# Altium schematic symbol library con-vg.SCHLIB: 123 symbols (part 1 of 5)
Pins are listed as number, name and electrical type; pins without a type are passive.

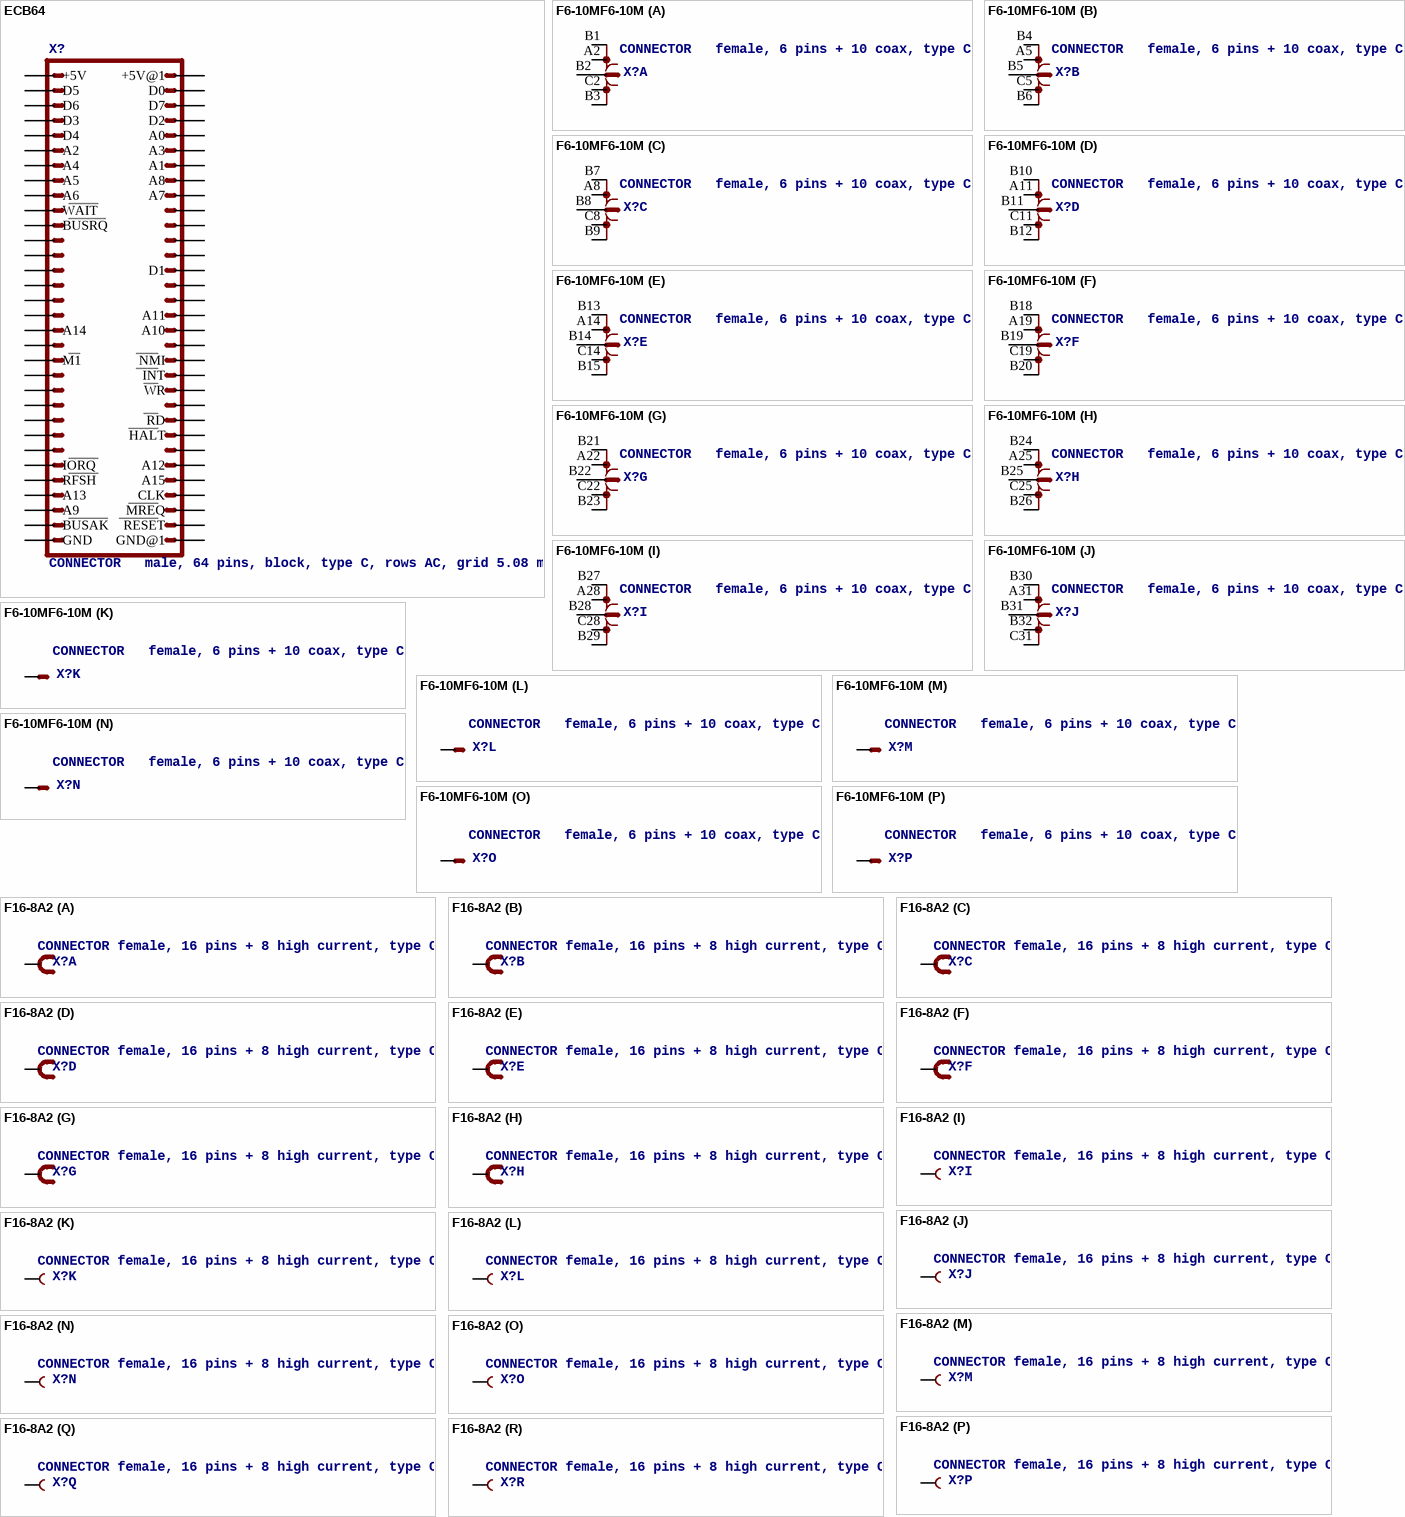
[diagram p0: symbols ECB64 to F16-8A2]

## ECB64
designator X?, comment CONNECTOR   male, 64 pins, block, type C, rows AC, grid 5.08 mm
footprint ML64ECB
pins: 10C @C10, 11C @C11, 12A @A12, 12C @C12, 13A @A13, 13C @C13, 14A @A14, 15A @A15, 15C @C15, 16A @A16, 16C @C16, 17A @A17, 19A @A19, 19C @C19, 21A @A21, 22A @A22, 23A @A23, 23C @C23, 24A @A24, 25A @A25, 26A @A26, 26C @C26, +5V (power), +5V@1 (power), A0, A1, A2, A3, A4, A5, A6, A7, A8, A9, A10, A11, A12, A13, A14, A15, BUSAK, BUSRQ, CLK, D0, D1, D2, D3, D4, D5, D6, D7, GND (power), GND@1 (power), HALT, INT, IORQ, M1, MREQ, NMI, RD, RESET, RFSH, WAIT, WR

## F6-10MF6-10M
designator X?, comment CONNECTOR   female, 6 pins + 10 coax, type C
footprint F6-10M
part A pins: A2 S2, B1 S1, B2 S, B3 S4, C2 S3
part B pins: A5 S2, B4 S1, B5 S, B6 S4, C5 S3
part C pins: A8 S2, B7 S1, B8 S, B9 S4, C8 S3
part D pins: A11 S2, B10 S1, B11 S, B12 S4, C11 S3
part E pins: A14 S2, B13 S1, B14 S, B15 S4, C14 S3
part F pins: A19 S2, B18 S1, B19 S, B20 S4, C19 S3
part G pins: A22 S2, B21 S1, B22 S, B23 S4, C22 S3
part H pins: A25 S2, B24 S1, B25 S, B26 S4, C25 S3
part I pins: A28 S2, B27 S1, B28 S, B29 S4, C28 S3
part J pins: A31 S2, B30 S1, B31 S, B32 S3, C31 S4
part K pins: A16 S
part L pins: B16 S
part M pins: C16 S
part N pins: A17 S
part O pins: B17 S
part P pins: C17 S

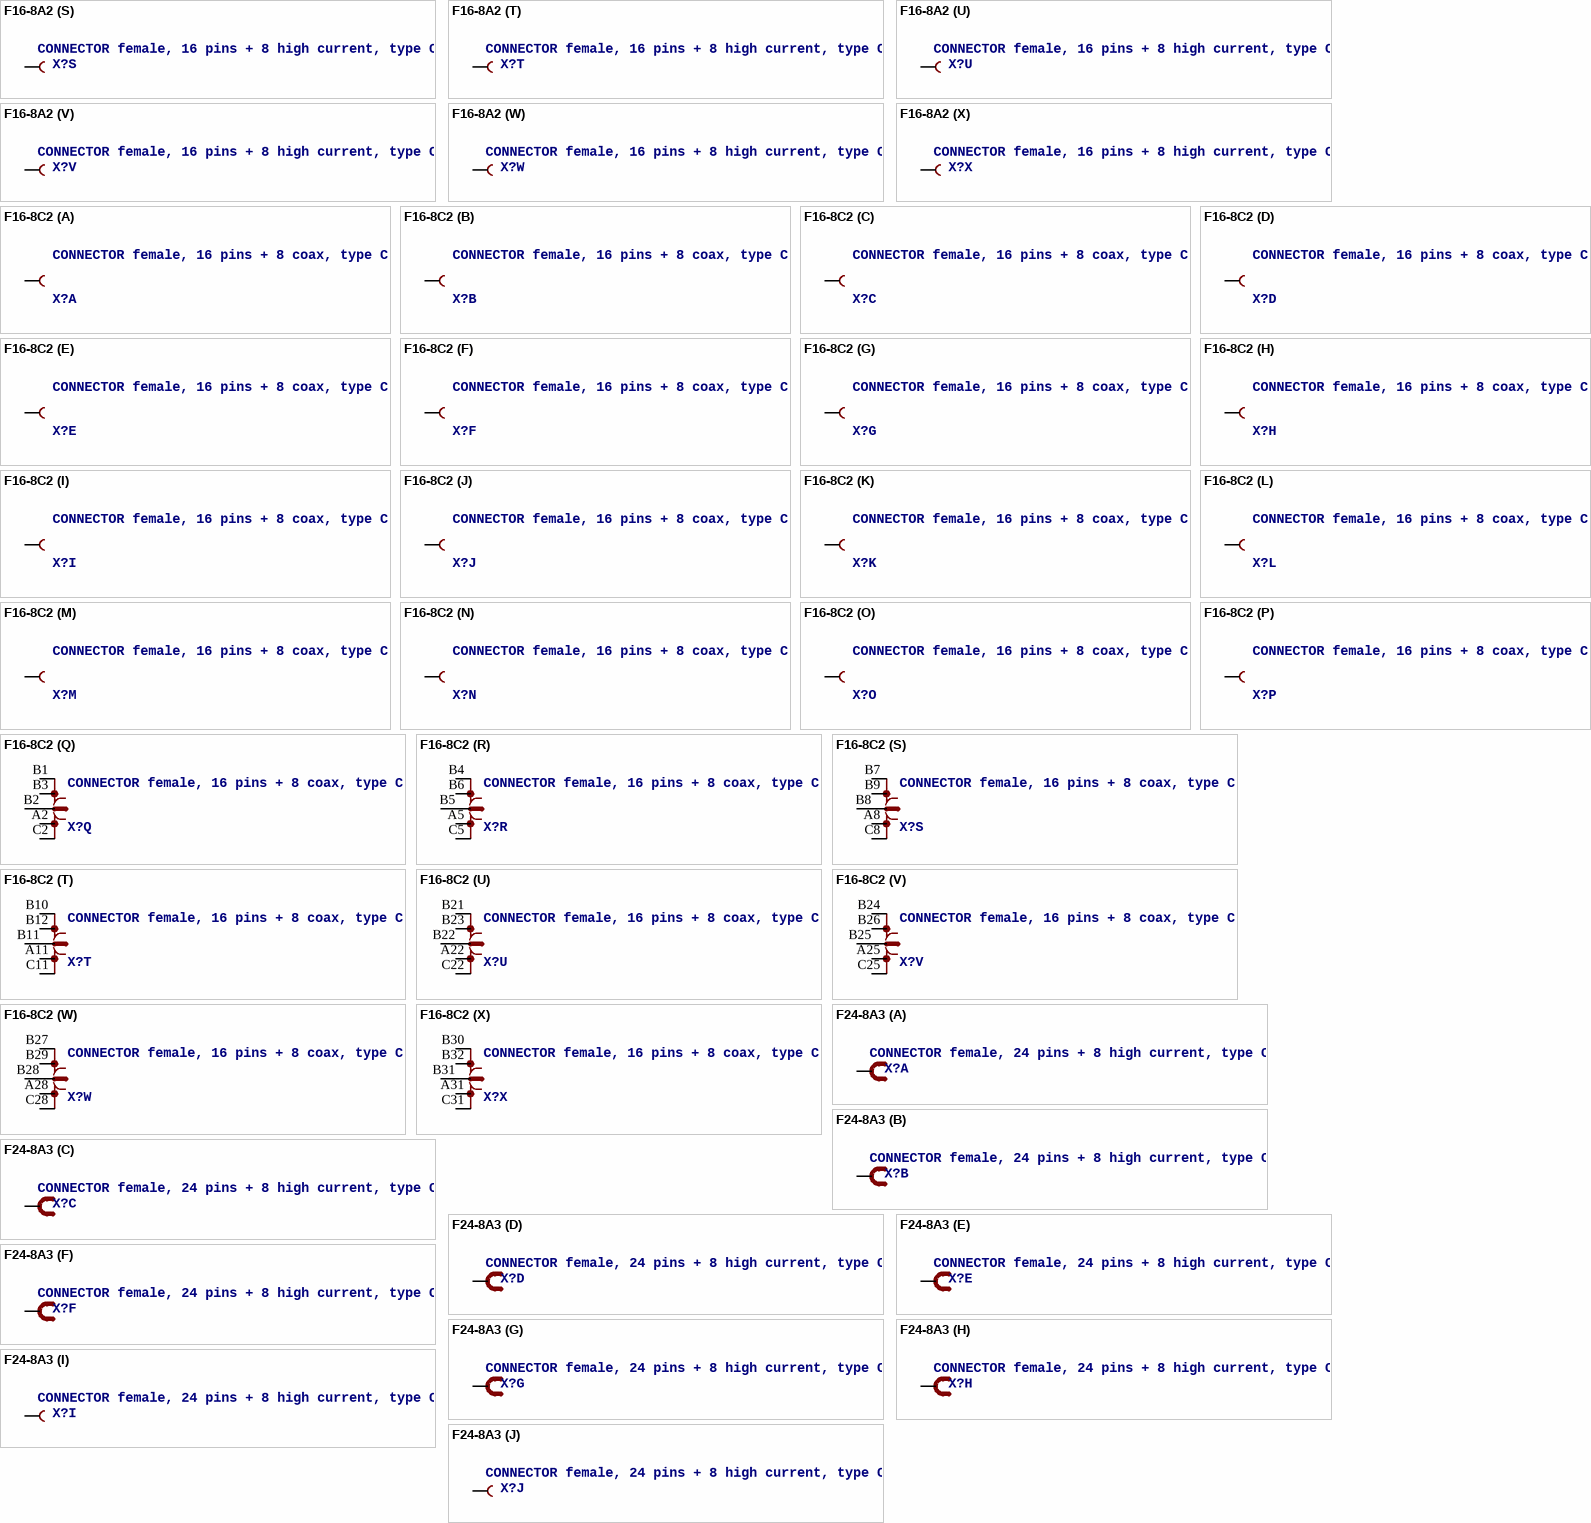
[diagram p1: symbols F16-8A2 to F24-8A3]

## F16-8A2
designator X?, comment CONNECTOR female, 16 pins + 8 high current, type C
footprint F16-8A2
part A pins: 1 B
part B pins: 2 B
part C pins: 3 B
part D pins: 4 B
part E pins: 5 B
part F pins: 6 B
part G pins: 7 B
part H pins: 8 B
part I pins: A13 B
part J pins: A14 B
part K pins: A15 B
part L pins: A16 B
part M pins: A17 B
part N pins: A18 B
part O pins: A19 B
part P pins: A20 B
part Q pins: C13 B
part R pins: C14 B
part S pins: C15 B
part T pins: C16 B
part U pins: C17 B
part V pins: C18 B
part W pins: C19 B
part X pins: C20 B

## F16-8C2
designator X?, comment CONNECTOR female, 16 pins + 8 coax, type C
footprint F16-8C2
part A pins: A13 B
part B pins: A14 B
part C pins: A15 B
part D pins: A16 B
part E pins: A17 B
part F pins: A18 B
part G pins: A19 B
part H pins: A20 B
part I pins: C13 B
part J pins: C14 B
part K pins: C15 B
part L pins: C16 B
part M pins: C17 B
part N pins: C18 B
part O pins: C19 B
part P pins: C20 B
part Q pins: A2 S3, B1 S1, B2 S, B3 S2, C2 S4
part R pins: A5 S3, B4 S1, B5 S, B6 S2, C5 S4
part S pins: A8 S3, B7 S1, B8 S, B9 S2, C8 S4
part T pins: A11 S3, B10 S1, B11 S, B12 S2, C11 S4
part U pins: A22 S3, B21 S1, B22 S, B23 S2, C22 S4
part V pins: A25 S3, B24 S1, B25 S, B26 S2, C25 S4
part W pins: A28 S3, B27 S1, B28 S, B29 S2, C28 S4
part X pins: A31 S3, B30 S1, B31 S, B32 S2, C31 S4

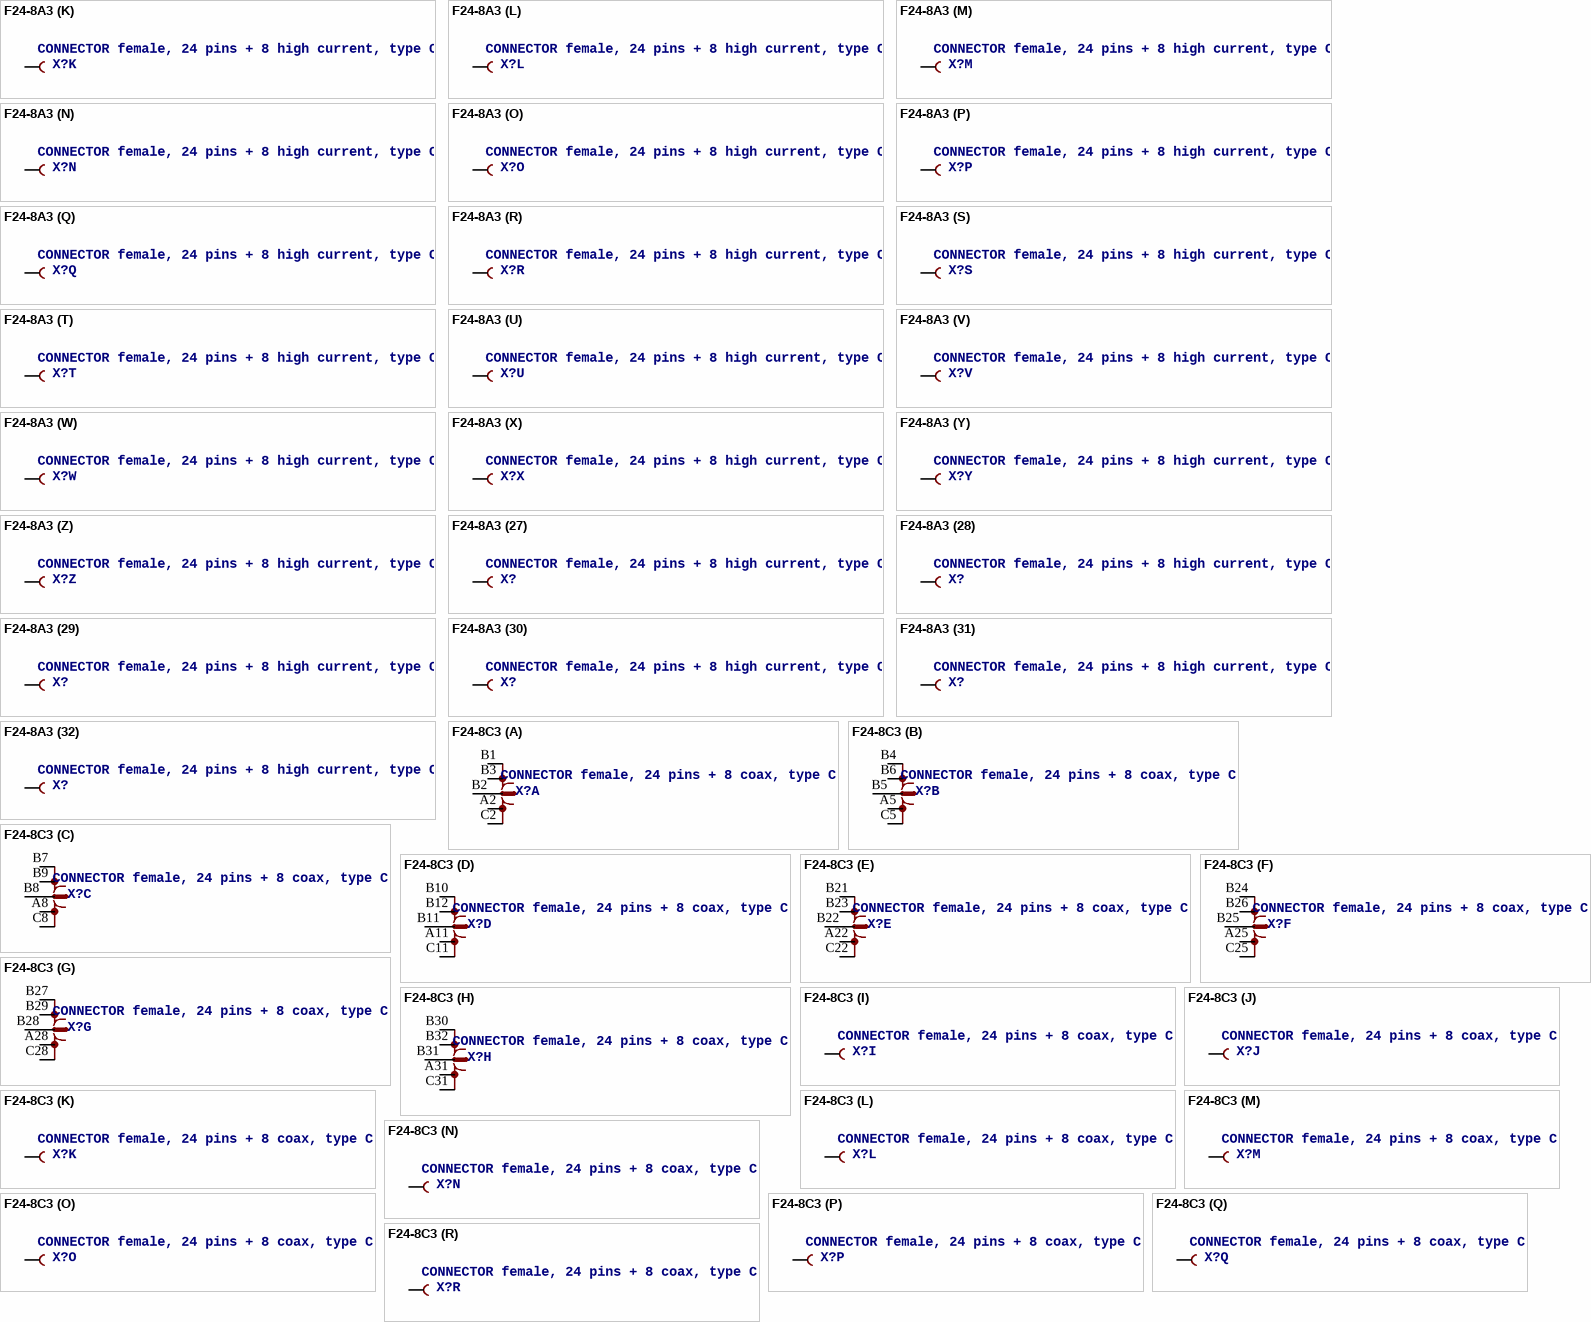
[diagram p2: symbols F24-8A3 to F24-8C3]

## F24-8A3
designator X?, comment CONNECTOR female, 24 pins + 8 high current, type C
footprint F24-8A3
part A pins: 1 B
part B pins: 2 B
part C pins: 3 B
part D pins: 4 B
part E pins: 5 B
part F pins: 6 B
part G pins: 7 B
part H pins: 8 B
part I pins: A13 B
part J pins: A14 B
part K pins: A15 B
part L pins: A16 B
part M pins: A17 B
part N pins: A18 B
part O pins: A19 B
part P pins: A20 B
part Q pins: C13 B
part R pins: C14 B
part S pins: C15 B
part T pins: C16 B
part U pins: C17 B
part V pins: C18 B
part W pins: C19 B
part X pins: C20 B
part Y pins: B13 B
part Z pins: B14 B
part 27 pins: B15 B
part 28 pins: B16 B
part 29 pins: B17 B
part 30 pins: B18 B
part 31 pins: B19 B
part 32 pins: B20 B

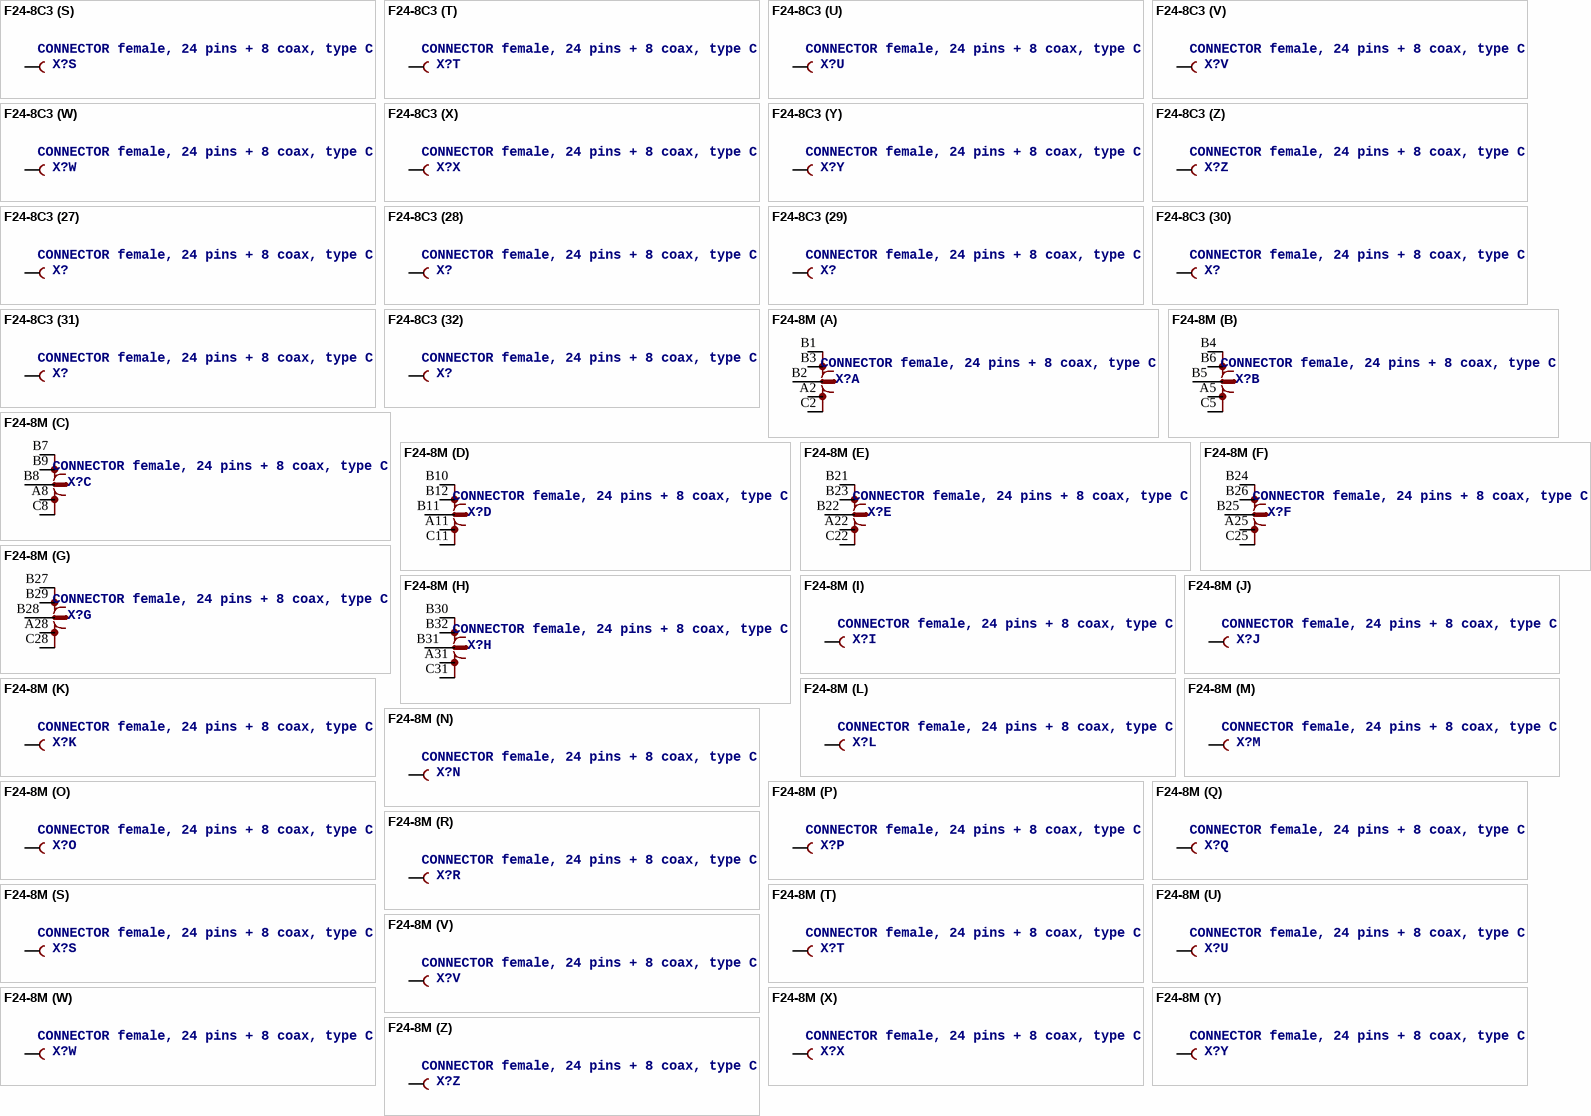
[diagram p3: symbols F24-8C3 to F24-8M]

## F24-8C3
designator X?, comment CONNECTOR female, 24 pins + 8 coax, type C
footprint F24-8C3
part A pins: A2 S3, B1 S1, B2 S, B3 S2, C2 S4
part B pins: A5 S3, B4 S1, B5 S, B6 S2, C5 S4
part C pins: A8 S3, B7 S1, B8 S, B9 S2, C8 S4
part D pins: A11 S3, B10 S1, B11 S, B12 S2, C11 S4
part E pins: A22 S3, B21 S1, B22 S, B23 S2, C22 S4
part F pins: A25 S3, B24 S1, B25 S, B26 S2, C25 S4
part G pins: A28 S3, B27 S1, B28 S, B29 S2, C28 S4
part H pins: A31 S3, B30 S1, B31 S, B32 S2, C31 S4
part I pins: A13 B
part J pins: A14 B
part K pins: A15 B
part L pins: A16 B
part M pins: A17 B
part N pins: A18 B
part O pins: A19 B
part P pins: A20 B
part Q pins: C13 B
part R pins: C14 B
part S pins: C15 B
part T pins: C16 B
part U pins: C17 B
part V pins: C18 B
part W pins: C19 B
part X pins: C20 B
part Y pins: B13 B
part Z pins: B14 B
part 27 pins: B15 B
part 28 pins: B16 B
part 29 pins: B17 B
part 30 pins: B18 B
part 31 pins: B19 B
part 32 pins: B20 B

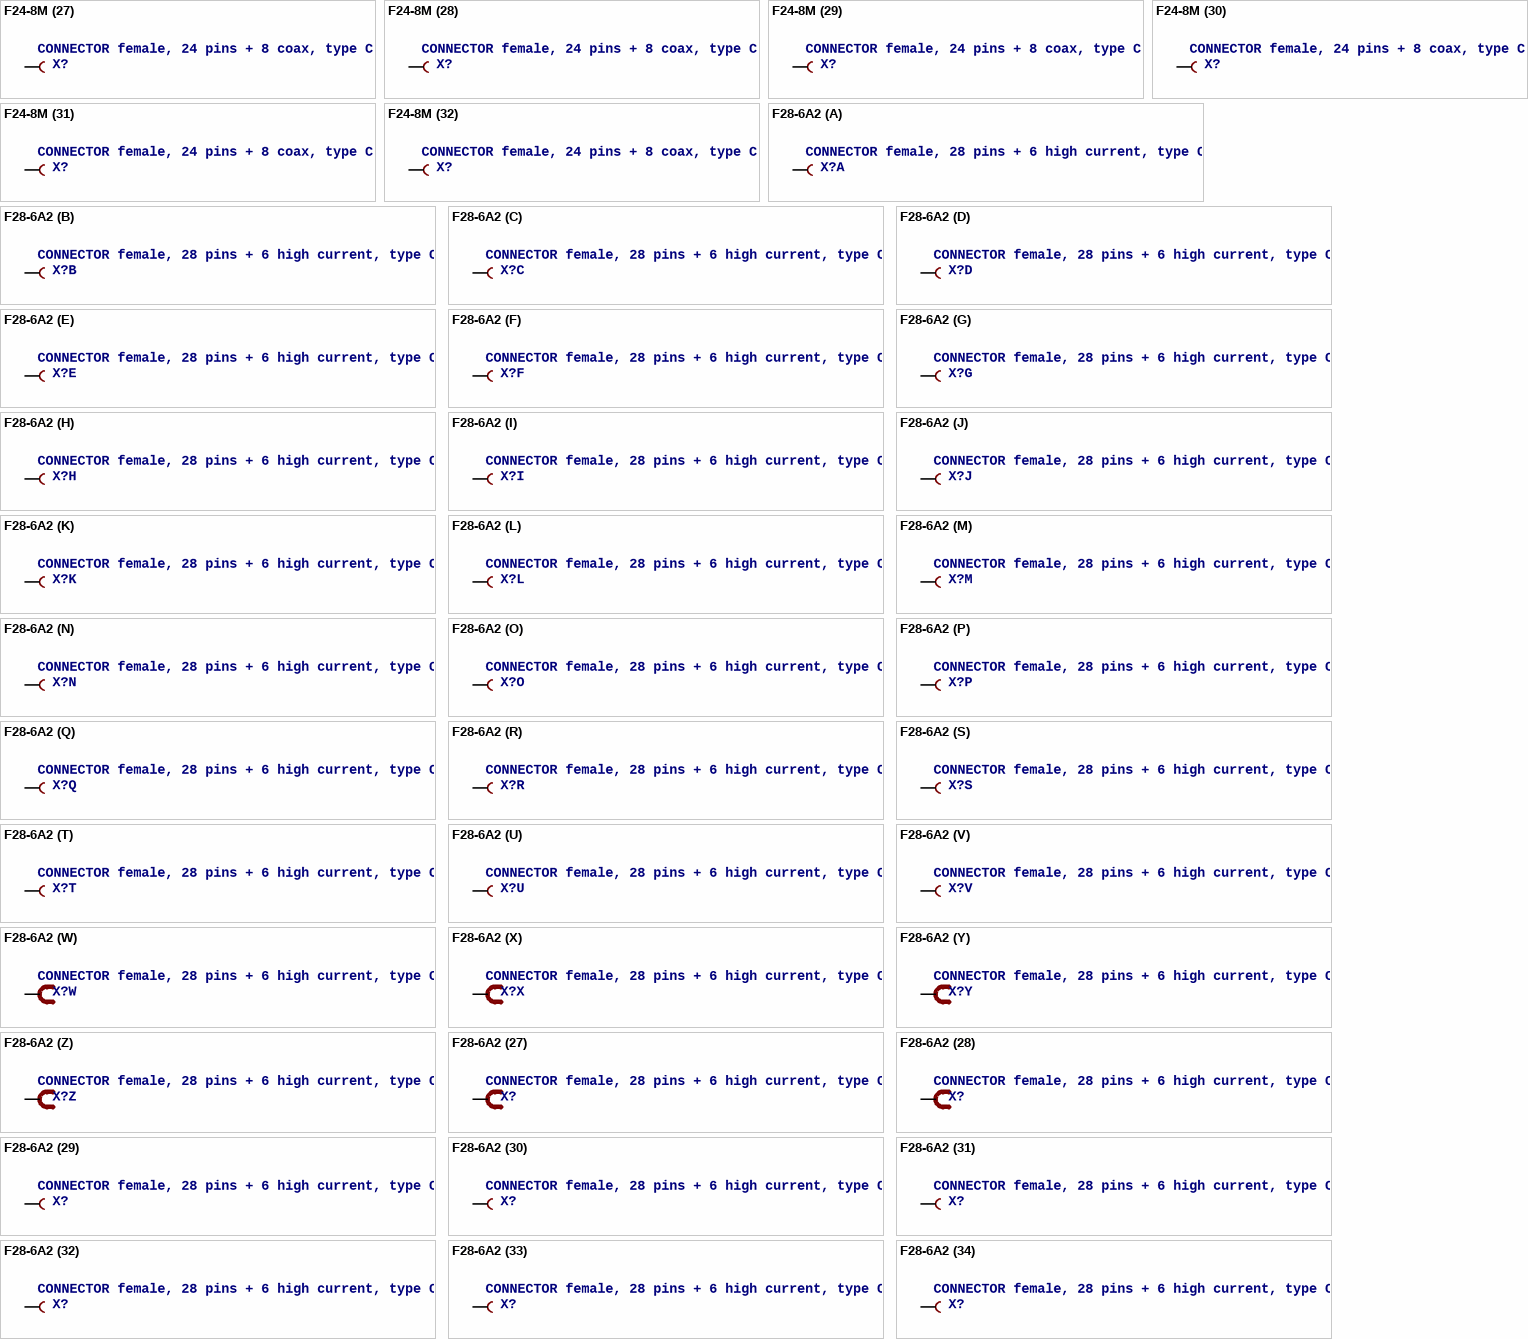
[diagram p4: symbols F24-8M to F28-6A2]

## F24-8M
designator X?, comment CONNECTOR female, 24 pins + 8 coax, type C
footprint F24-8M
part A pins: A2 S3, B1 S1, B2 S, B3 S2, C2 S4
part B pins: A5 S3, B4 S1, B5 S, B6 S2, C5 S4
part C pins: A8 S3, B7 S1, B8 S, B9 S2, C8 S4
part D pins: A11 S3, B10 S1, B11 S, B12 S2, C11 S4
part E pins: A22 S3, B21 S1, B22 S, B23 S2, C22 S4
part F pins: A25 S3, B24 S1, B25 S, B26 S2, C25 S4
part G pins: A28 S3, B27 S1, B28 S, B29 S2, C28 S4
part H pins: A31 S3, B30 S1, B31 S, B32 S2, C31 S4
part I pins: A13 B
part J pins: A14 B
part K pins: A15 B
part L pins: A16 B
part M pins: A17 B
part N pins: A18 B
part O pins: A19 B
part P pins: A20 B
part Q pins: C13 B
part R pins: C14 B
part S pins: C15 B
part T pins: C16 B
part U pins: C17 B
part V pins: C18 B
part W pins: C19 B
part X pins: C20 B
part Y pins: B13 B
part Z pins: B14 B
part 27 pins: B15 B
part 28 pins: B16 B
part 29 pins: B17 B
part 30 pins: B18 B
part 31 pins: B19 B
part 32 pins: B20 B

## F28-6A2
designator X?, comment CONNECTOR female, 28 pins + 6 high current, type C
footprint F28-6A2
part A pins: A10 B
part B pins: A14 B
part C pins: A15 B
part D pins: A16 B
part E pins: A17 B
part F pins: A18 B
part G pins: A19 B
part H pins: A20 B
part I pins: C10 B
part J pins: C14 B
part K pins: C15 B
part L pins: C16 B
part M pins: C17 B
part N pins: C18 B
part O pins: C19 B
part P pins: C20 B
part Q pins: A21 B
part R pins: A22 B
part S pins: A23 B
part T pins: C21 B
part U pins: C22 B
part V pins: C23 B
part W pins: 1 B
part X pins: 2 B
part Y pins: 3 B
part Z pins: 4 B
part 27 pins: 5 B
part 28 pins: 6 B
part 29 pins: A11 B
part 30 pins: A12 B
part 31 pins: A13 B
part 32 pins: C11 B
part 33 pins: C12 B
part 34 pins: C13 B

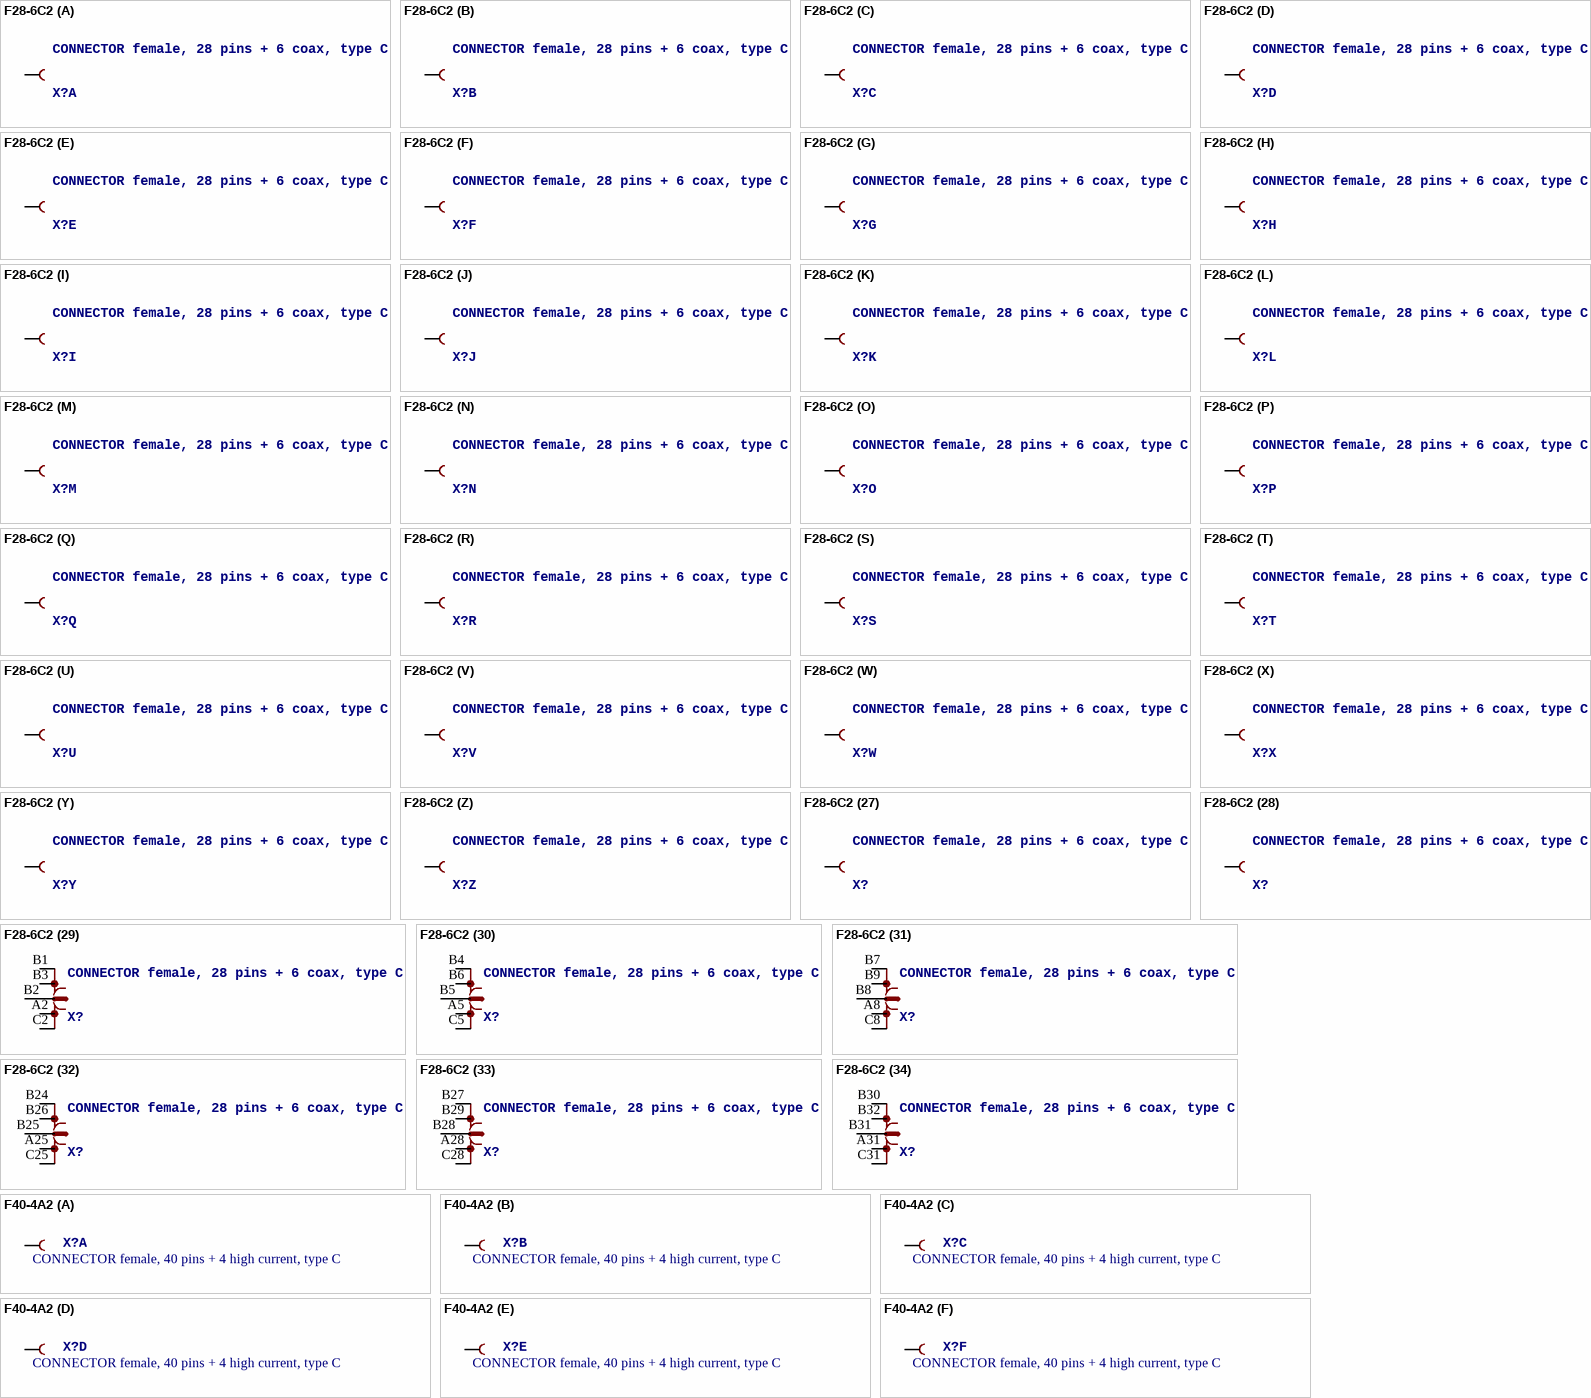
[diagram p5: symbols F28-6C2 to F40-4A2]

## F28-6C2
designator X?, comment CONNECTOR female, 28 pins + 6 coax, type C
footprint F28-6C2
part A pins: A10 B
part B pins: A14 B
part C pins: A15 B
part D pins: A16 B
part E pins: A17 B
part F pins: A18 B
part G pins: A19 B
part H pins: A20 B
part I pins: C10 B
part J pins: C14 B
part K pins: C15 B
part L pins: C16 B
part M pins: C17 B
part N pins: C18 B
part O pins: C19 B
part P pins: C20 B
part Q pins: A21 B
part R pins: A22 B
part S pins: A23 B
part T pins: C21 B
part U pins: C22 B
part V pins: C23 B
part W pins: A11 B
part X pins: A12 B
part Y pins: A13 B
part Z pins: C11 B
part 27 pins: C12 B
part 28 pins: C13 B
part 29 pins: A2 S3, B1 S1, B2 S, B3 S2, C2 S4
part 30 pins: A5 S3, B4 S1, B5 S, B6 S2, C5 S4
part 31 pins: A8 S3, B7 S1, B8 S, B9 S2, C8 S4
part 32 pins: A25 S3, B24 S1, B25 S, B26 S2, C25 S4
part 33 pins: A28 S3, B27 S1, B28 S, B29 S2, C28 S4
part 34 pins: A31 S3, B30 S1, B31 S, B32 S2, C31 S4

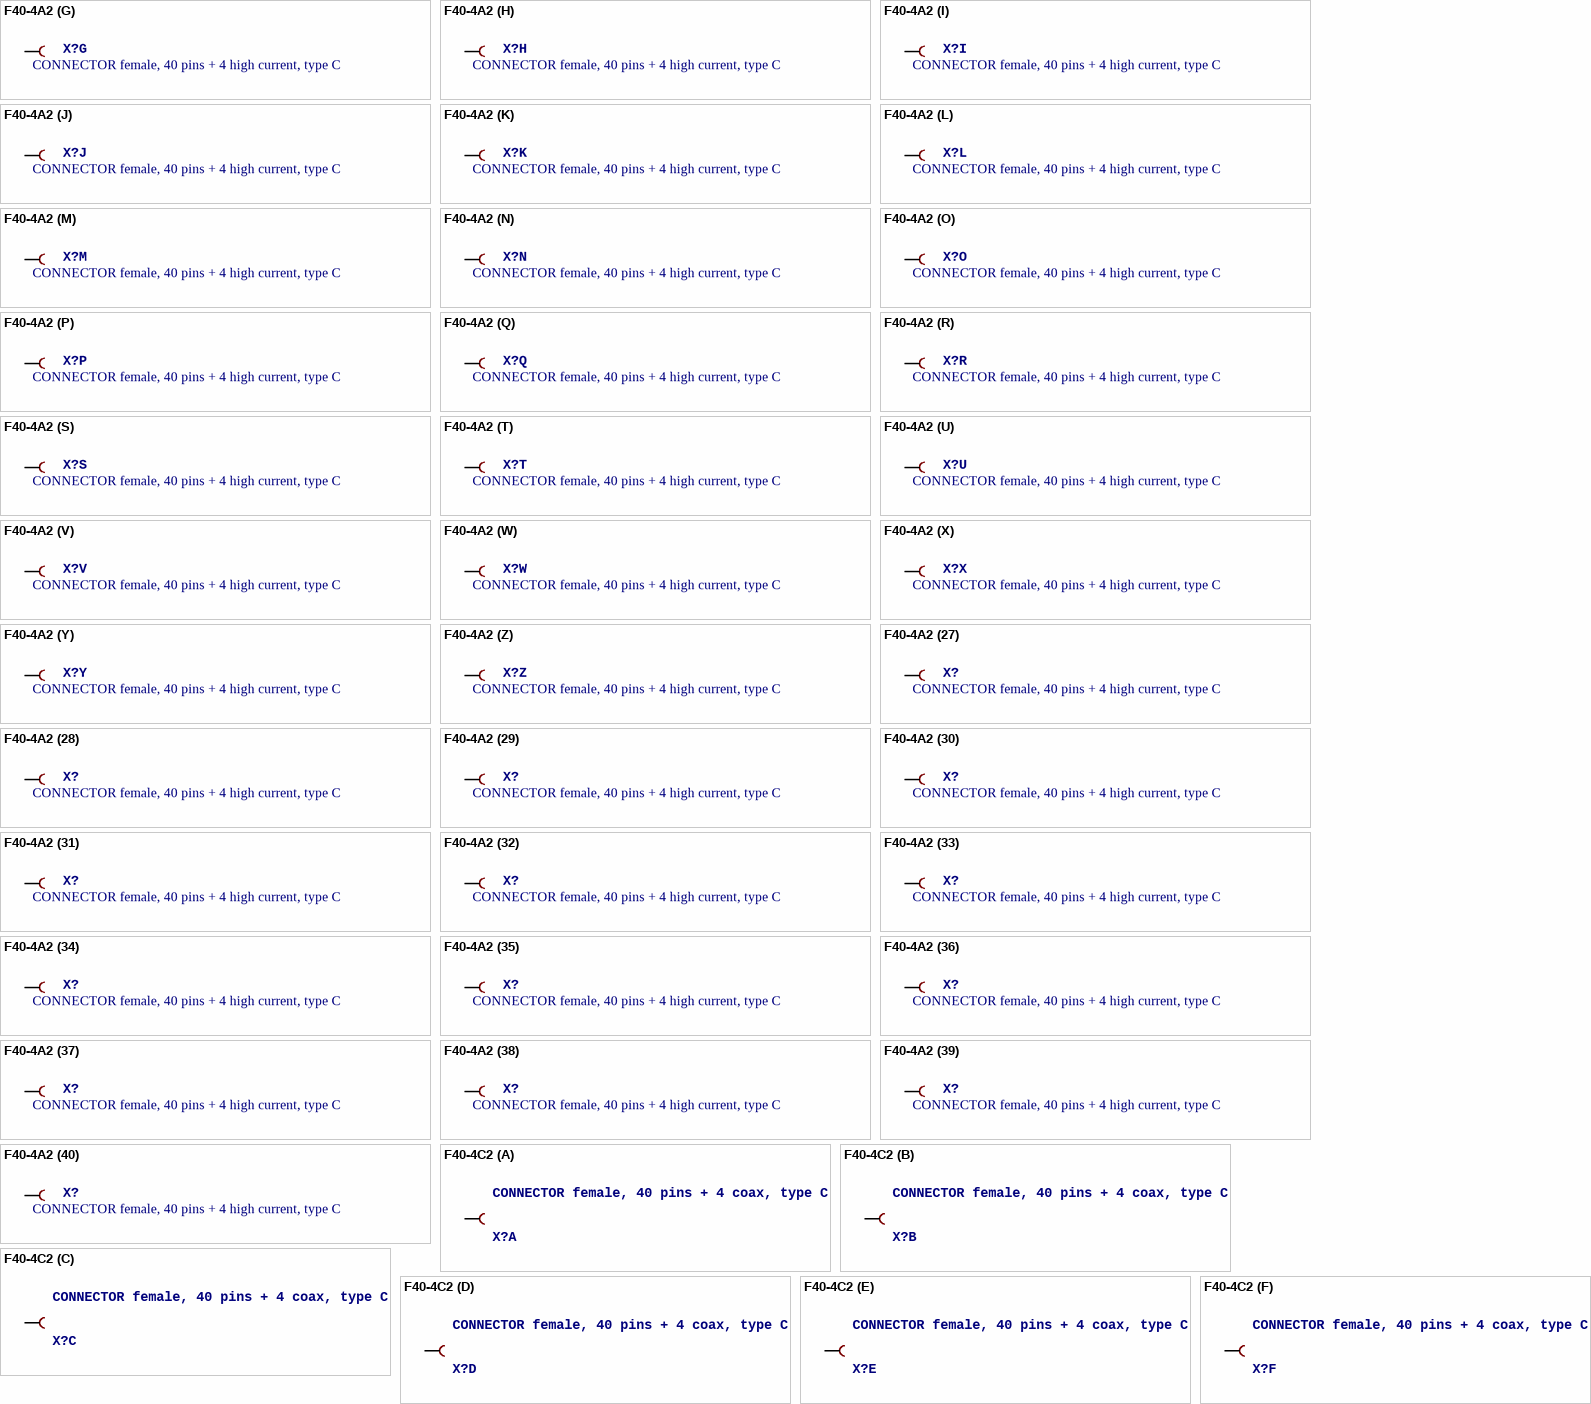
[diagram p6: symbols F40-4A2 to F40-4C2]

## F40-4A2
designator X?, comment CONNECTOR female, 40 pins + 4 high current, type C
footprint F40-4A2
part A pins: A7 B
part B pins: A8 B
part C pins: A9 B
part D pins: A10 B
part E pins: A11 B
part F pins: A12 B
part G pins: A13 B
part H pins: A14 B
part I pins: A15 B
part J pins: A16 B
part K pins: A17 B
part L pins: A18 B
part M pins: A19 B
part N pins: A20 B
part O pins: A21 B
part P pins: A22 B
part Q pins: A23 B
part R pins: A24 B
part S pins: A25 B
part T pins: A26 B
part U pins: C7 B
part V pins: C8 B
part W pins: C9 B
part X pins: C10 B
part Y pins: C11 B
part Z pins: C12 B
part 27 pins: C13 B
part 28 pins: C14 B
part 29 pins: C15 B
part 30 pins: C16 B
part 31 pins: C17 B
part 32 pins: C18 B
part 33 pins: C19 B
part 34 pins: C20 B
part 35 pins: C21 B
part 36 pins: C22 B
part 37 pins: C23 B
part 38 pins: C24 B
part 39 pins: C25 B
part 40 pins: C26 B
part 41 pins: 1 B
part 42 pins: 2 B
part 43 pins: 3 B
part 44 pins: 4 B

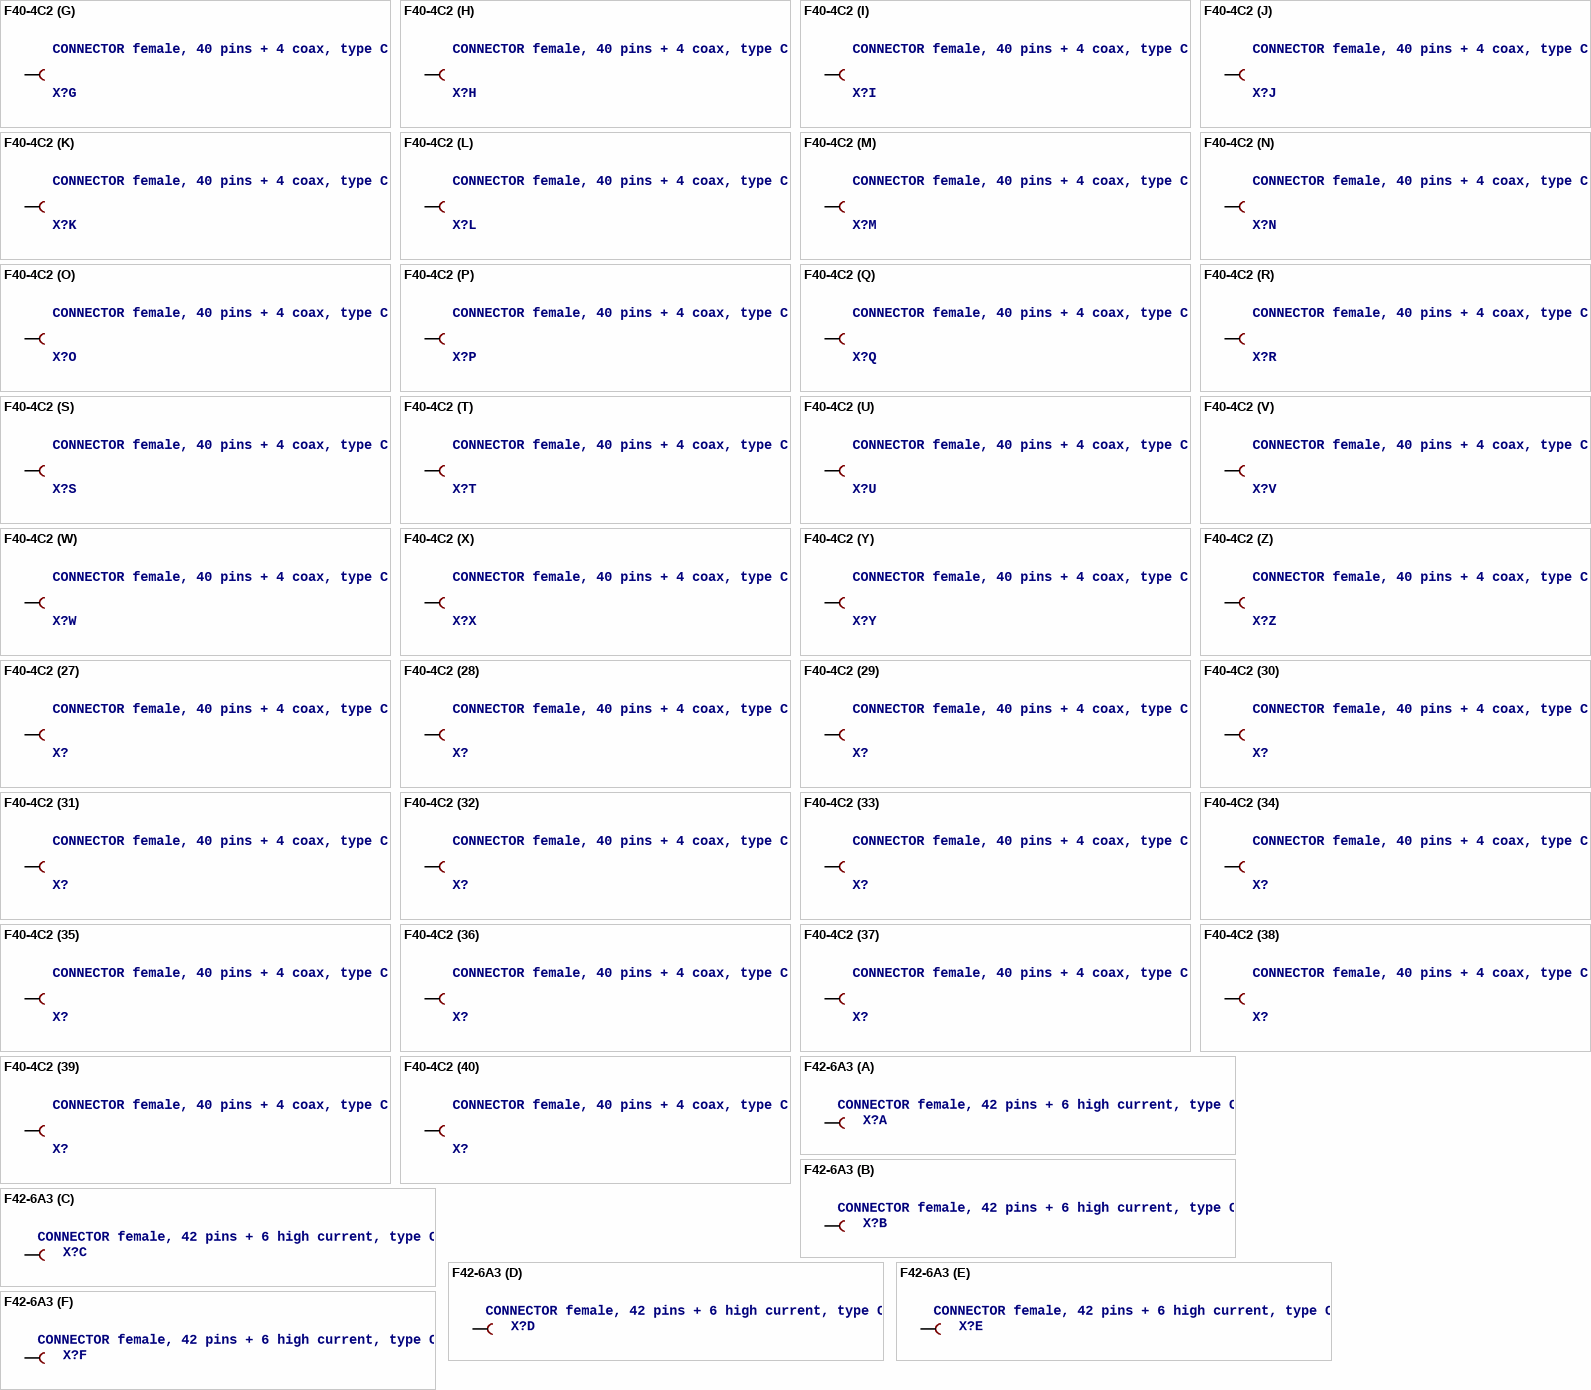
[diagram p7: symbols F40-4C2 to F42-6A3]

## F40-4C2
designator X?, comment CONNECTOR female, 40 pins + 4 coax, type C
footprint F40-4C2
part A pins: A8 B
part B pins: A9 B
part C pins: A10 B
part D pins: A11 B
part E pins: A12 B
part F pins: A13 B
part G pins: A14 B
part H pins: A15 B
part I pins: A16 B
part J pins: A17 B
part K pins: A18 B
part L pins: A19 B
part M pins: A20 B
part N pins: A21 B
part O pins: A22 B
part P pins: A23 B
part Q pins: A24 B
part R pins: A25 B
part S pins: A26 B
part T pins: C8 B
part U pins: C9 B
part V pins: C10 B
part W pins: C11 B
part X pins: C12 B
part Y pins: C13 B
part Z pins: C14 B
part 27 pins: C15 B
part 28 pins: C16 B
part 29 pins: C17 B
part 30 pins: C18 B
part 31 pins: C19 B
part 32 pins: C20 B
part 33 pins: C21 B
part 34 pins: C22 B
part 35 pins: C23 B
part 36 pins: C24 B
part 37 pins: C25 B
part 38 pins: C26 B
part 39 pins: A7 B
part 40 pins: C7 B
part 41 pins: A2 S3, B1 S1, B2 S, B3 S2, C2 S4
part 42 pins: A5 S3, B4 S1, B5 S, B6 S2, C5 S4
part 43 pins: A28 S3, B27 S1, B28 S, B29 S2, C28 S4
part 44 pins: A31 S3, B30 S1, B31 S, B32 S2, C31 S4

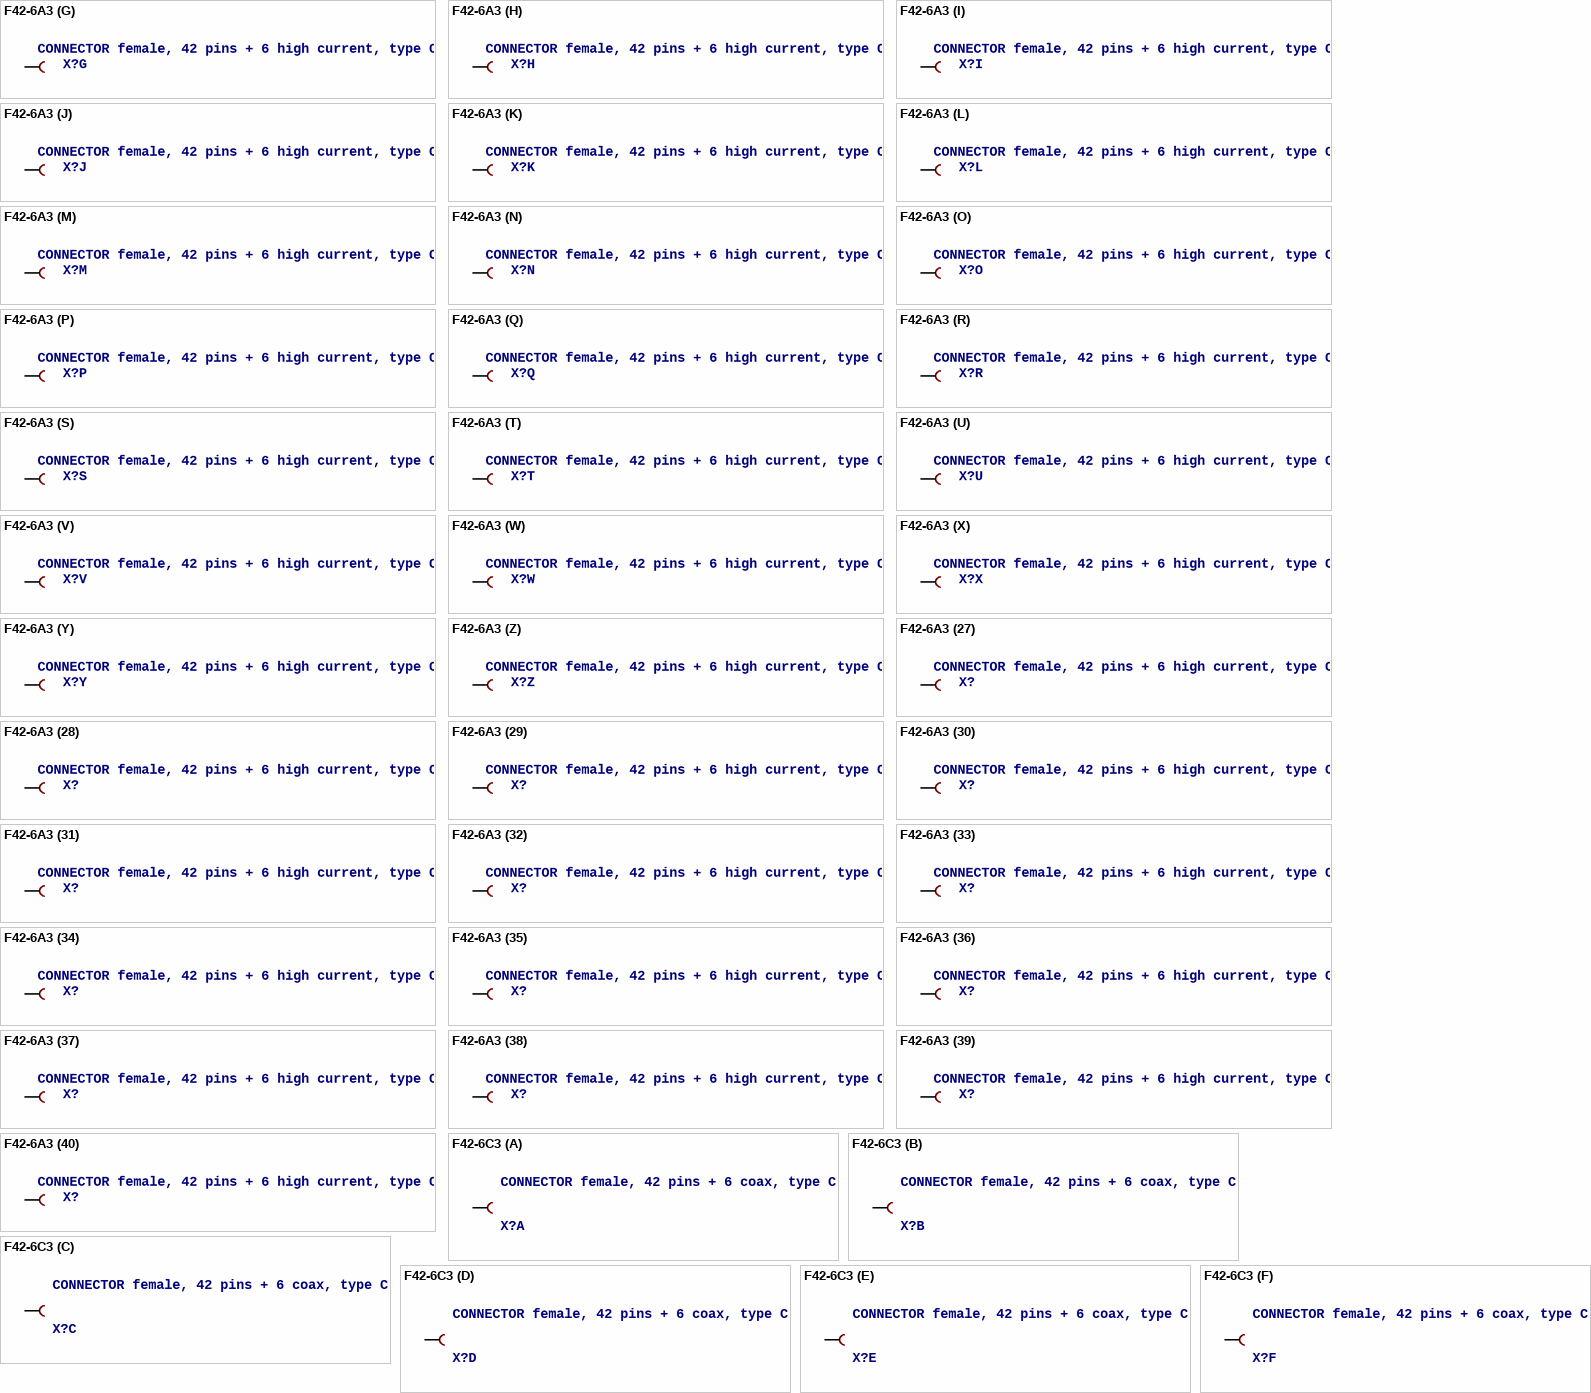
[diagram p8: symbols F42-6A3 to F42-6C3]

## F42-6A3
designator X?, comment CONNECTOR female, 42 pins + 6 high current, type C
footprint F42-6A3
part A pins: A10 B
part B pins: A11 B
part C pins: A12 B
part D pins: A13 B
part E pins: A14 B
part F pins: A15 B
part G pins: A16 B
part H pins: A17 B
part I pins: A18 B
part J pins: A19 B
part K pins: A20 B
part L pins: A21 B
part M pins: A22 B
part N pins: A23 B
part O pins: B10 B
part P pins: B11 B
part Q pins: B12 B
part R pins: B13 B
part S pins: B14 B
part T pins: B15 B
part U pins: B16 B
part V pins: B17 B
part W pins: B18 B
part X pins: B19 B
part Y pins: B20 B
part Z pins: B21 B
part 27 pins: B22 B
part 28 pins: B23 B
part 29 pins: C10 B
part 30 pins: C11 B
part 31 pins: C12 B
part 32 pins: C13 B
part 33 pins: C14 B
part 34 pins: C15 B
part 35 pins: C16 B
part 36 pins: C17 B
part 37 pins: C18 B
part 38 pins: C19 B
part 39 pins: C20 B
part 40 pins: C21 B
part 41 pins: C22 B
part 42 pins: C23 B
part 43 pins: 1 B
part 44 pins: 2 B
part 45 pins: 3 B
part 46 pins: 4 B
part 47 pins: 5 B
part 48 pins: 6 B

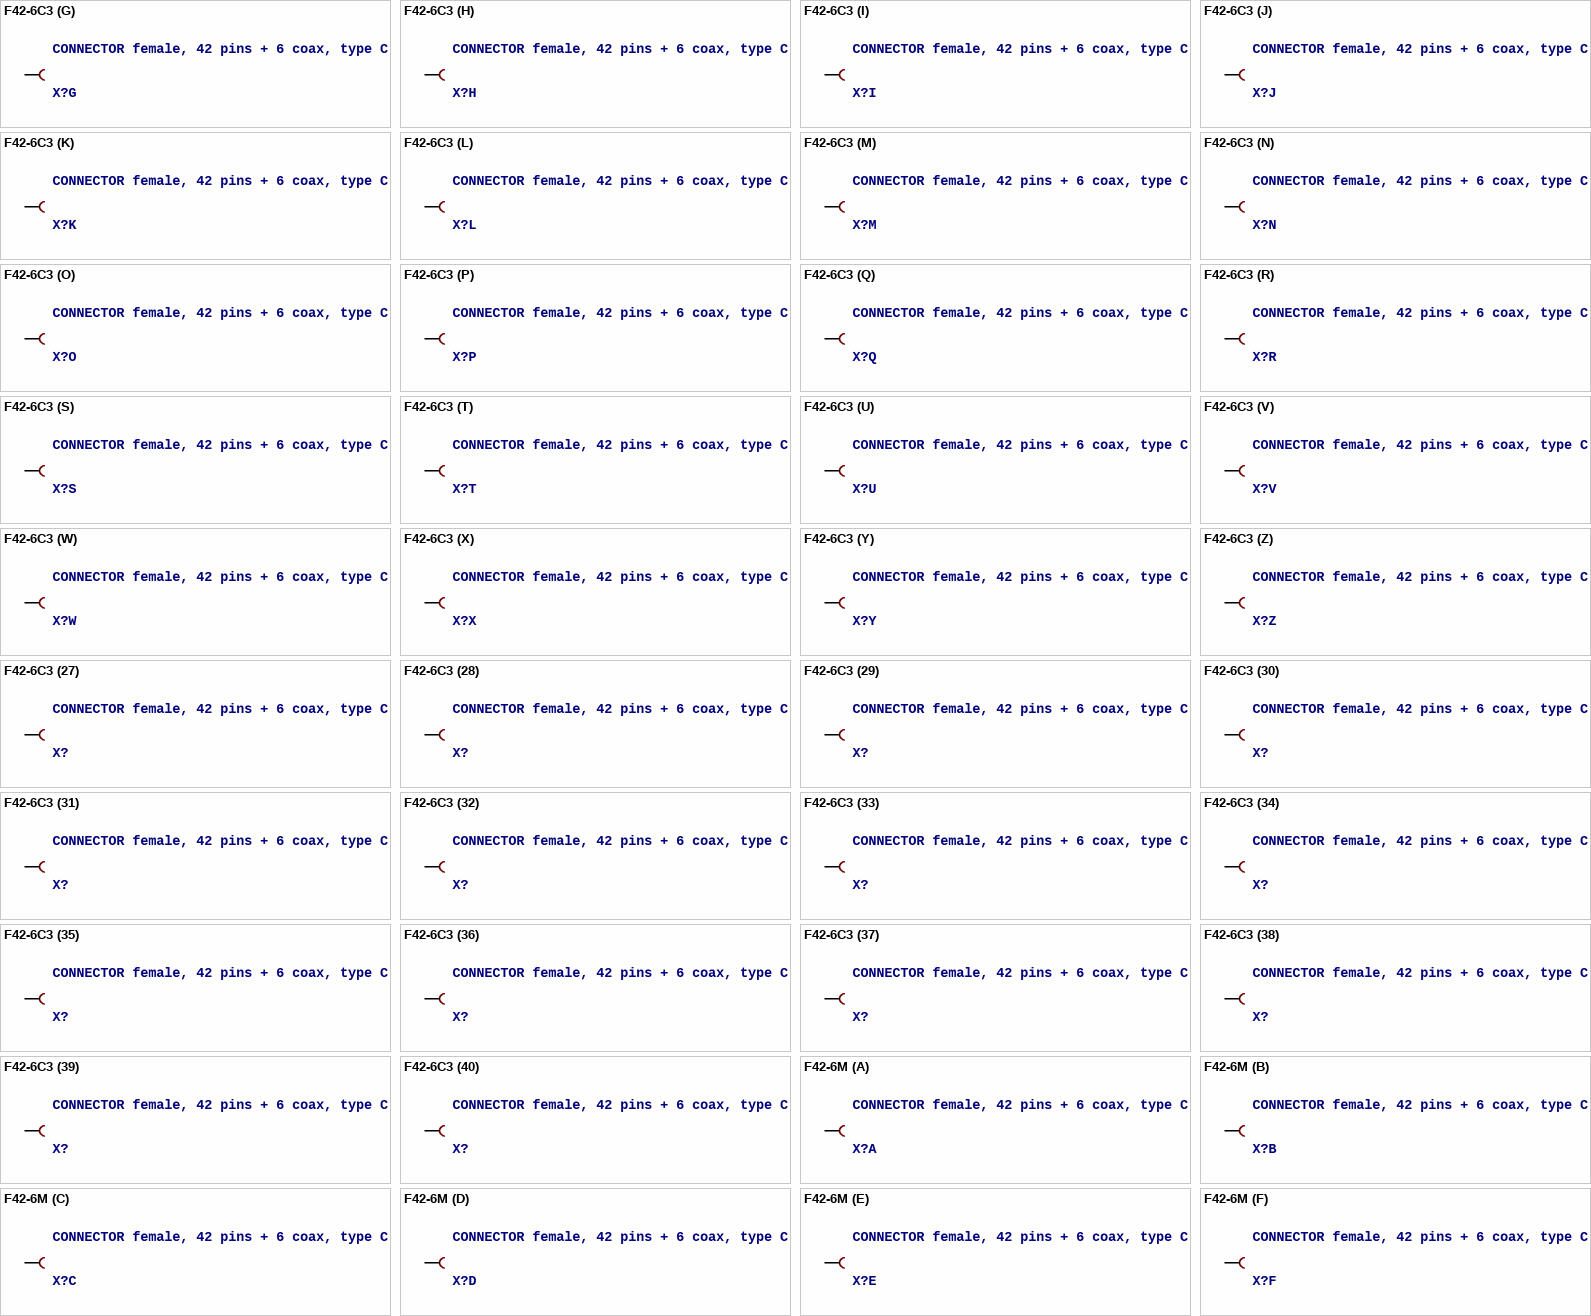
[diagram p9: symbols F42-6C3 to F42-6M]

## F42-6C3
designator X?, comment CONNECTOR female, 42 pins + 6 coax, type C
footprint F42-6C3
part A pins: A10 B
part B pins: A11 B
part C pins: A12 B
part D pins: A13 B
part E pins: A14 B
part F pins: A15 B
part G pins: A16 B
part H pins: A17 B
part I pins: A18 B
part J pins: A19 B
part K pins: A20 B
part L pins: A21 B
part M pins: A22 B
part N pins: A23 B
part O pins: B10 B
part P pins: B11 B
part Q pins: B12 B
part R pins: B13 B
part S pins: B14 B
part T pins: B15 B
part U pins: B16 B
part V pins: B17 B
part W pins: B18 B
part X pins: B19 B
part Y pins: B20 B
part Z pins: B21 B
part 27 pins: B22 B
part 28 pins: B23 B
part 29 pins: C10 B
part 30 pins: C11 B
part 31 pins: C12 B
part 32 pins: C13 B
part 33 pins: C14 B
part 34 pins: C15 B
part 35 pins: C16 B
part 36 pins: C17 B
part 37 pins: C18 B
part 38 pins: C19 B
part 39 pins: C20 B
part 40 pins: C21 B
part 41 pins: C22 B
part 42 pins: C23 B
part 43 pins: A2 S3, B1 S1, B2 S, B3 S2, C2 S4
part 44 pins: A5 S3, B4 S1, B5 S, B6 S2, C5 S4
part 45 pins: A8 S3, B7 S1, B8 S, B9 S2, C8 S4
part 46 pins: A25 S3, B24 S1, B25 S, B26 S2, C25 S4
part 47 pins: A28 S3, B27 S1, B28 S, B29 S2, C28 S4
part 48 pins: A31 S3, B30 S1, B31 S, B32 S2, C31 S4

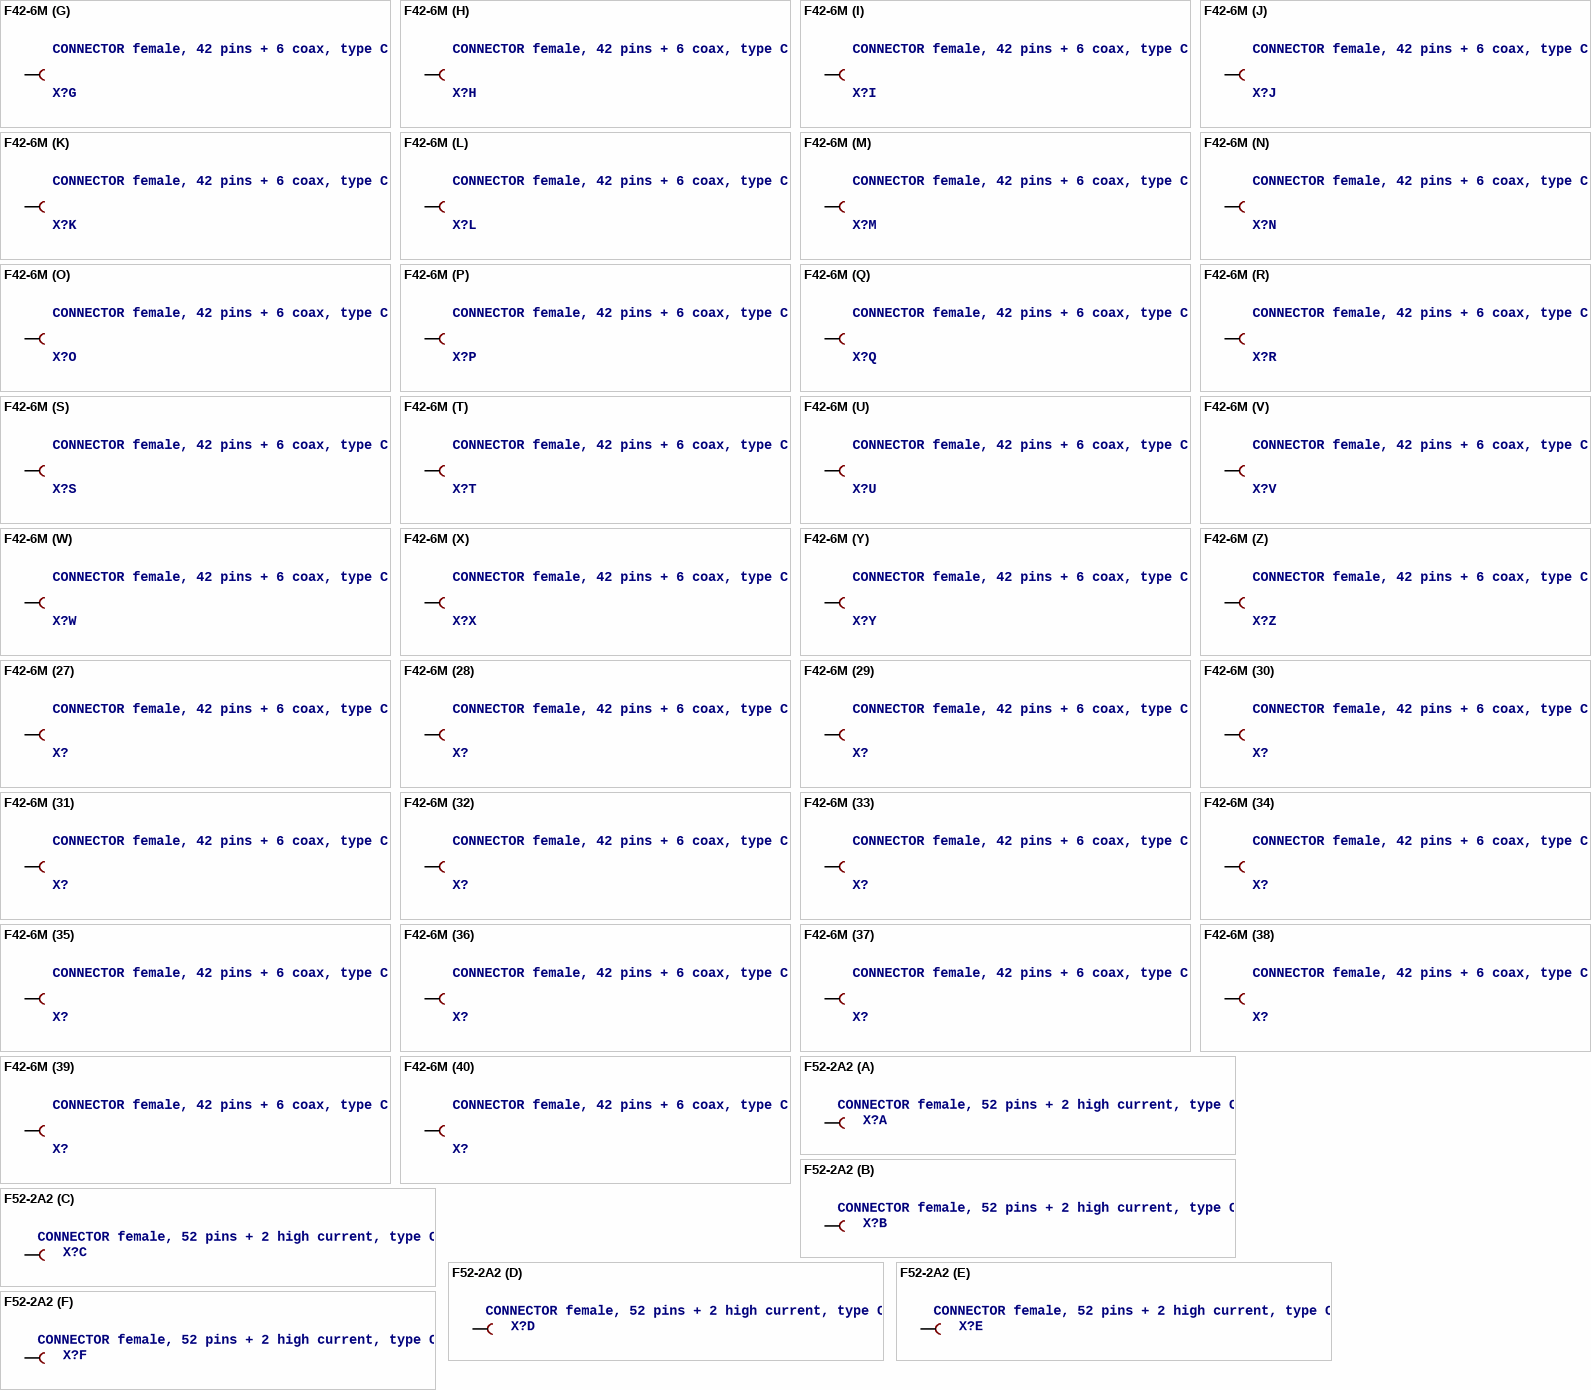
[diagram p10: symbols F42-6M to F52-2A2]

## F42-6M
designator X?, comment CONNECTOR female, 42 pins + 6 coax, type C
footprint F42-6M
part A pins: A10 B
part B pins: A11 B
part C pins: A12 B
part D pins: A13 B
part E pins: A14 B
part F pins: A15 B
part G pins: A16 B
part H pins: A17 B
part I pins: A18 B
part J pins: A19 B
part K pins: A20 B
part L pins: A21 B
part M pins: A22 B
part N pins: A23 B
part O pins: B10 B
part P pins: B11 B
part Q pins: B12 B
part R pins: B13 B
part S pins: B14 B
part T pins: B15 B
part U pins: B16 B
part V pins: B17 B
part W pins: B18 B
part X pins: B19 B
part Y pins: B20 B
part Z pins: B21 B
part 27 pins: B22 B
part 28 pins: B23 B
part 29 pins: C10 B
part 30 pins: C11 B
part 31 pins: C12 B
part 32 pins: C13 B
part 33 pins: C14 B
part 34 pins: C15 B
part 35 pins: C16 B
part 36 pins: C17 B
part 37 pins: C18 B
part 38 pins: C19 B
part 39 pins: C20 B
part 40 pins: C21 B
part 41 pins: C22 B
part 42 pins: C23 B
part 43 pins: A2 S3, B1 S1, B2 S, B3 S2, C2 S4
part 44 pins: A5 S3, B4 S1, B5 S, B6 S2, C5 S4
part 45 pins: A8 S3, B7 S1, B8 S, B9 S2, C8 S4
part 46 pins: A25 S3, B24 S1, B25 S, B26 S2, C25 S4
part 47 pins: A28 S3, B27 S1, B28 S, B29 S2, C28 S4
part 48 pins: A31 S3, B30 S1, B31 S, B32 S2, C31 S4

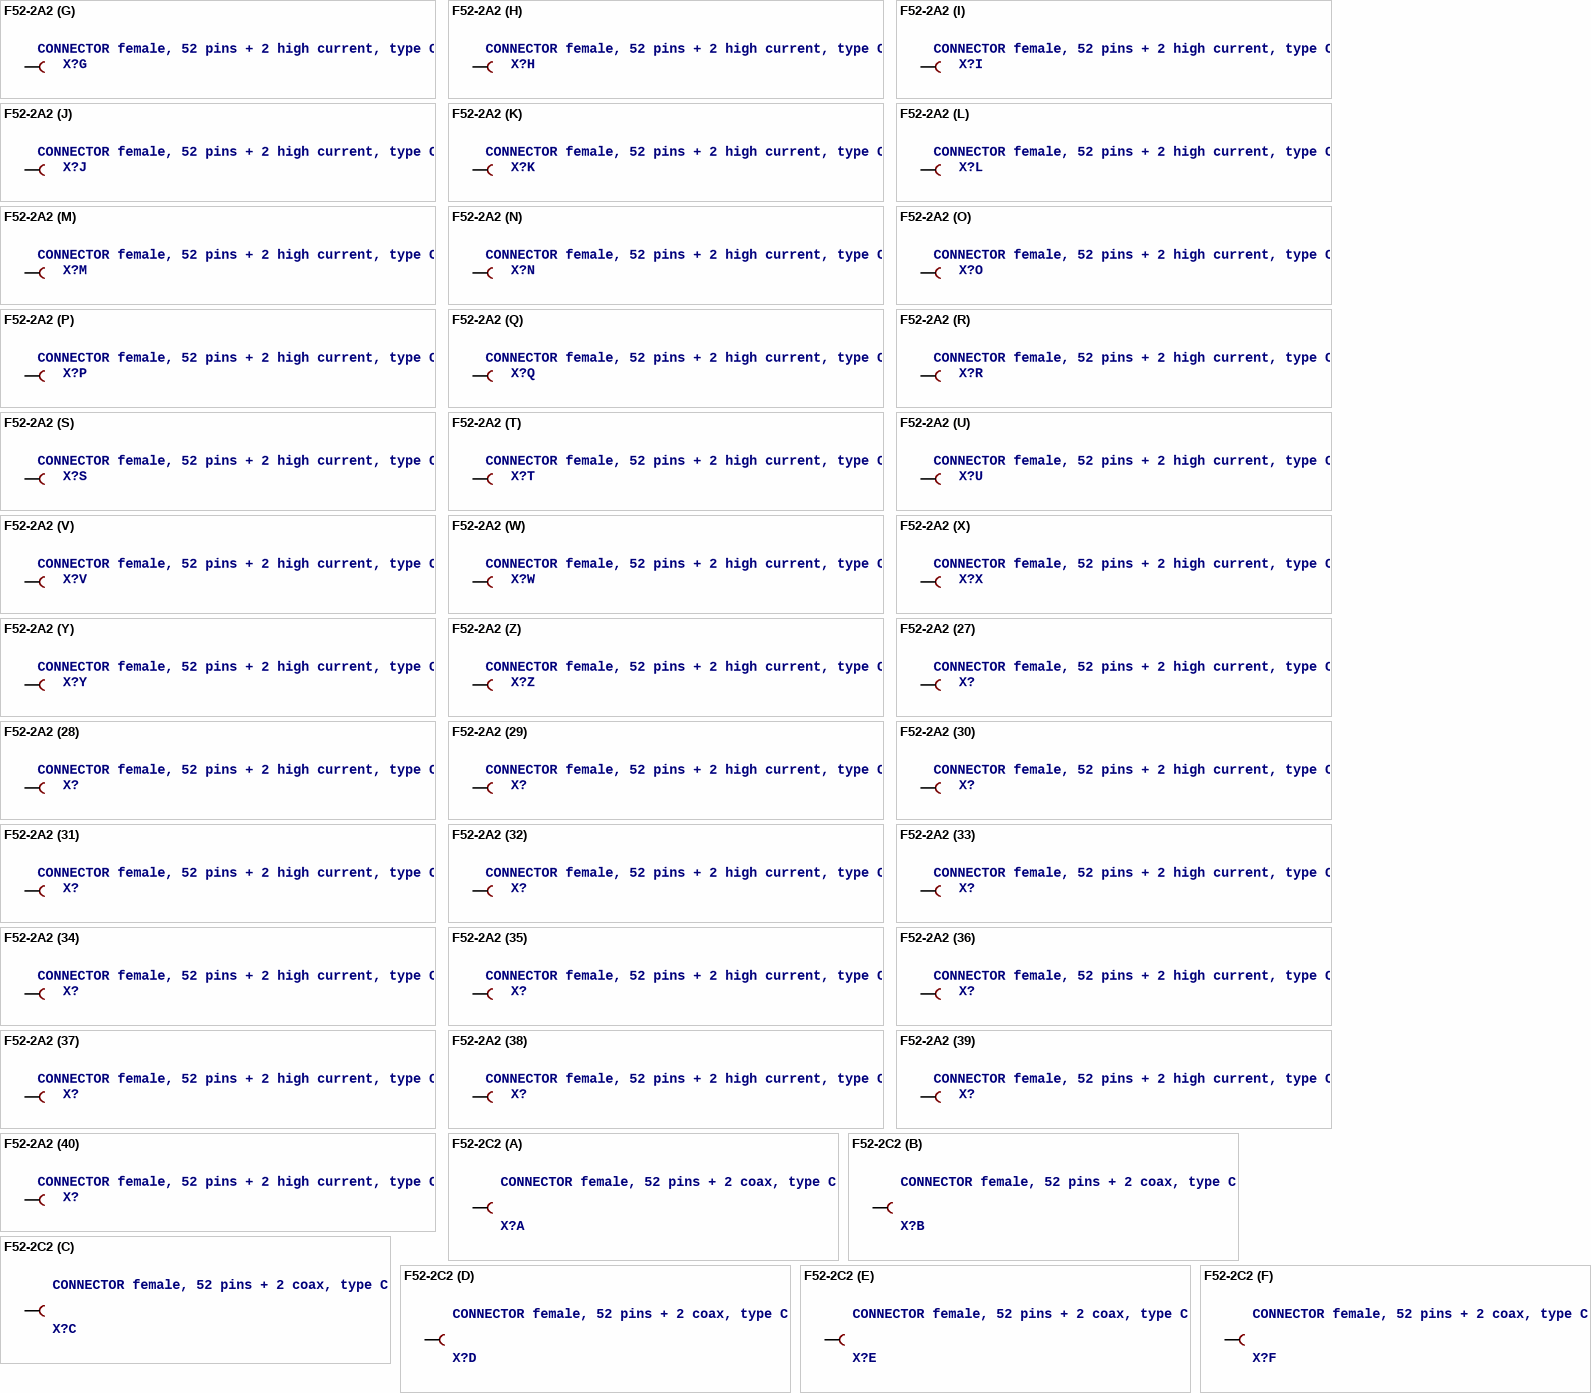
[diagram p11: symbols F52-2A2 to F52-2C2]

## F52-2A2
designator X?, comment CONNECTOR female, 52 pins + 2 high current, type C
footprint F52-2A2
part A pins: A4 B
part B pins: A5 B
part C pins: A6 B
part D pins: A7 B
part E pins: A8 B
part F pins: A9 B
part G pins: A10 B
part H pins: A11 B
part I pins: A12 B
part J pins: A13 B
part K pins: A14 B
part L pins: A15 B
part M pins: A16 B
part N pins: A17 B
part O pins: A18 B
part P pins: A19 B
part Q pins: A20 B
part R pins: A21 B
part S pins: A22 B
part T pins: A23 B
part U pins: A24 B
part V pins: A25 B
part W pins: A26 B
part X pins: A27 B
part Y pins: A28 B
part Z pins: A29 B
part 27 pins: C4 B
part 28 pins: C5 B
part 29 pins: C6 B
part 30 pins: C7 B
part 31 pins: C8 B
part 32 pins: C9 B
part 33 pins: C10 B
part 34 pins: C11 B
part 35 pins: C12 B
part 36 pins: C13 B
part 37 pins: C14 B
part 38 pins: C15 B
part 39 pins: C16 B
part 40 pins: C17 B
part 41 pins: C18 B
part 42 pins: C19 B
part 43 pins: C20 B
part 44 pins: C21 B
part 45 pins: C22 B
part 46 pins: C23 B
part 47 pins: C24 B
part 48 pins: C25 B
part 49 pins: C26 B
part 50 pins: C27 B
part 51 pins: C28 B
part 52 pins: C29 B
part 53 pins: 1 B
part 54 pins: 2 B

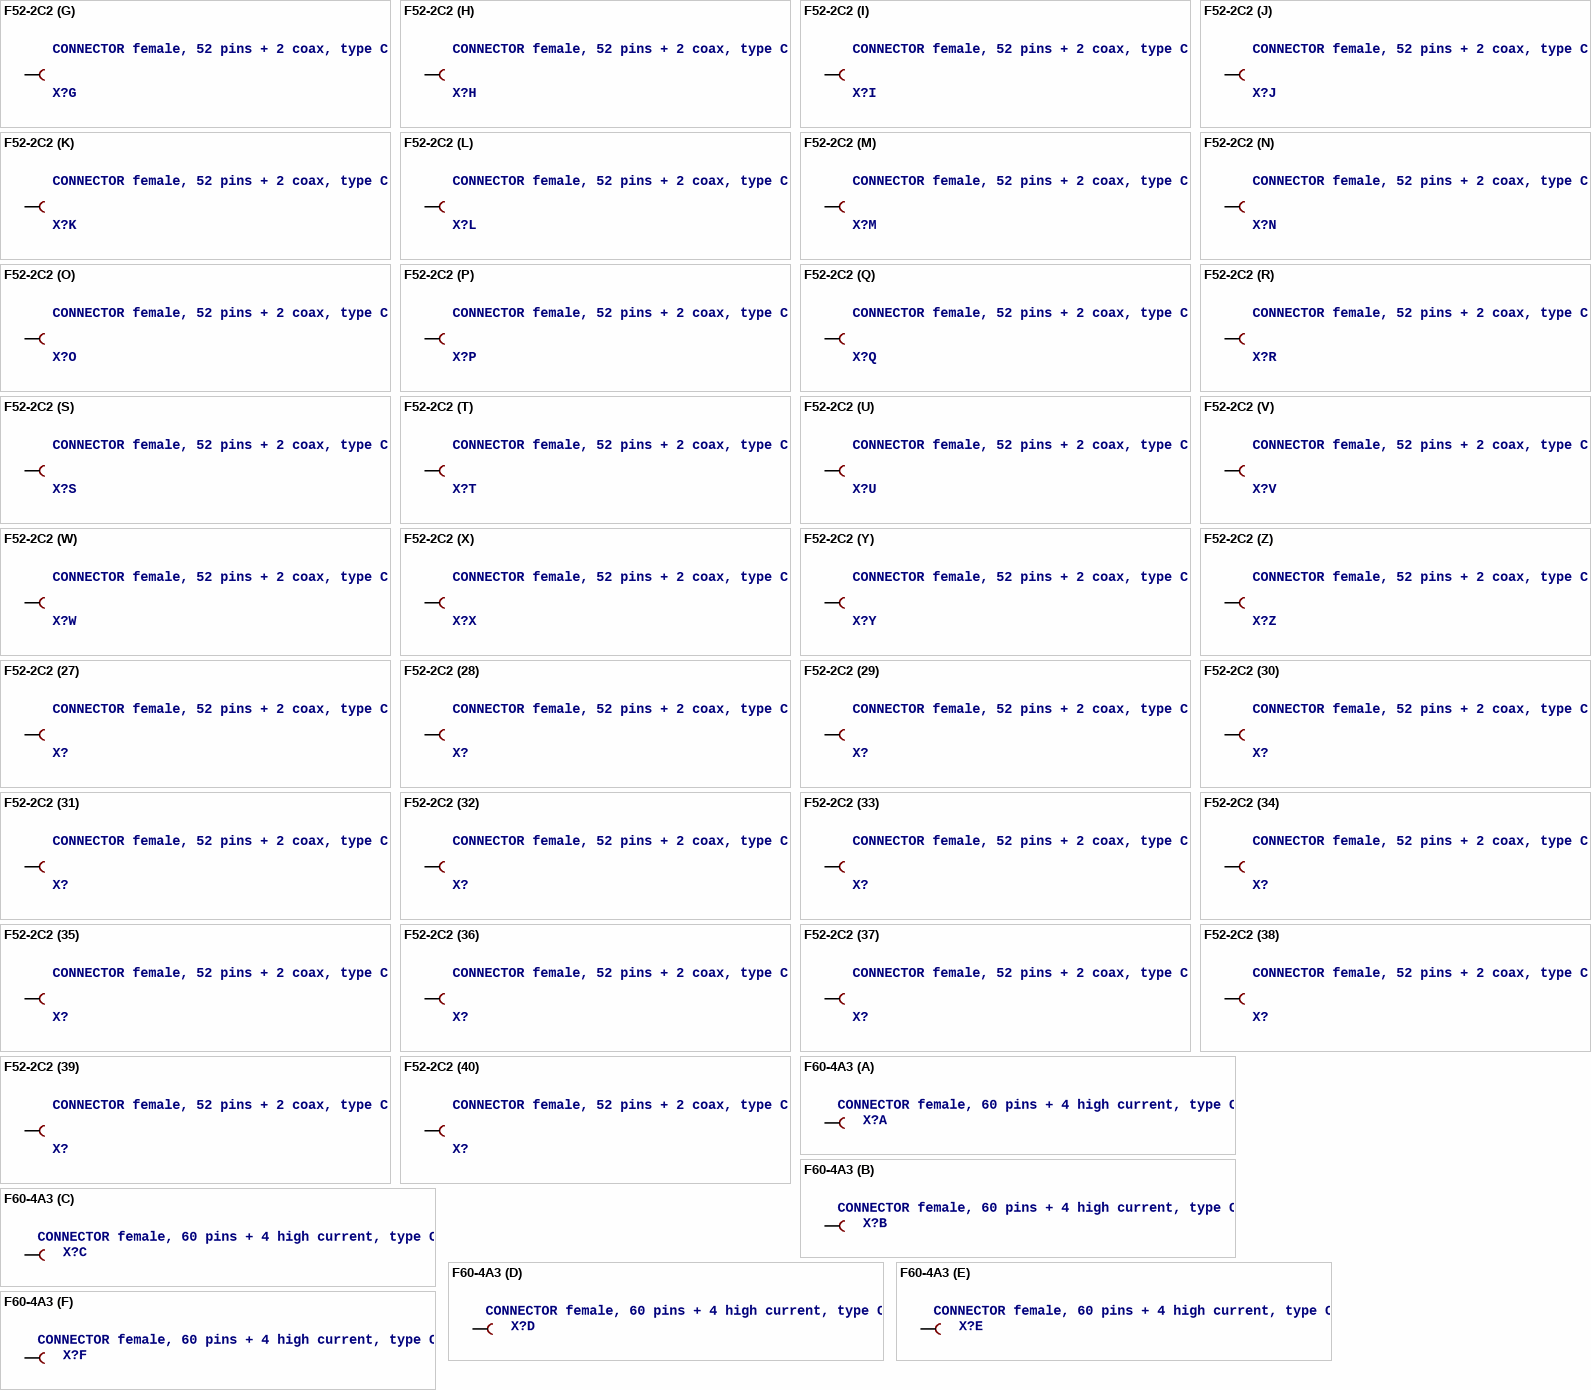
[diagram p12: symbols F52-2C2 to F60-4A3]

## F52-2C2
designator X?, comment CONNECTOR female, 52 pins + 2 coax, type C
footprint F52-2C2
part A pins: A4 B
part B pins: A5 B
part C pins: A6 B
part D pins: A7 B
part E pins: A8 B
part F pins: A9 B
part G pins: A10 B
part H pins: A11 B
part I pins: A12 B
part J pins: A13 B
part K pins: A14 B
part L pins: A15 B
part M pins: A16 B
part N pins: A17 B
part O pins: A18 B
part P pins: A19 B
part Q pins: A20 B
part R pins: A21 B
part S pins: A22 B
part T pins: A23 B
part U pins: A24 B
part V pins: A25 B
part W pins: A26 B
part X pins: A27 B
part Y pins: A28 B
part Z pins: A29 B
part 27 pins: C4 B
part 28 pins: C5 B
part 29 pins: C6 B
part 30 pins: C7 B
part 31 pins: C8 B
part 32 pins: C9 B
part 33 pins: C10 B
part 34 pins: C11 B
part 35 pins: C12 B
part 36 pins: C13 B
part 37 pins: C14 B
part 38 pins: C15 B
part 39 pins: C16 B
part 40 pins: C17 B
part 41 pins: C18 B
part 42 pins: C19 B
part 43 pins: C20 B
part 44 pins: C21 B
part 45 pins: C22 B
part 46 pins: C23 B
part 47 pins: C24 B
part 48 pins: C25 B
part 49 pins: C26 B
part 50 pins: C27 B
part 51 pins: C28 B
part 52 pins: C29 B
part 53 pins: A2 S3, B1 S1, B2 S, B3 S2, C2 S4
part 54 pins: A31 S3, B30 S1, B31 S, B32 S2, C31 S4

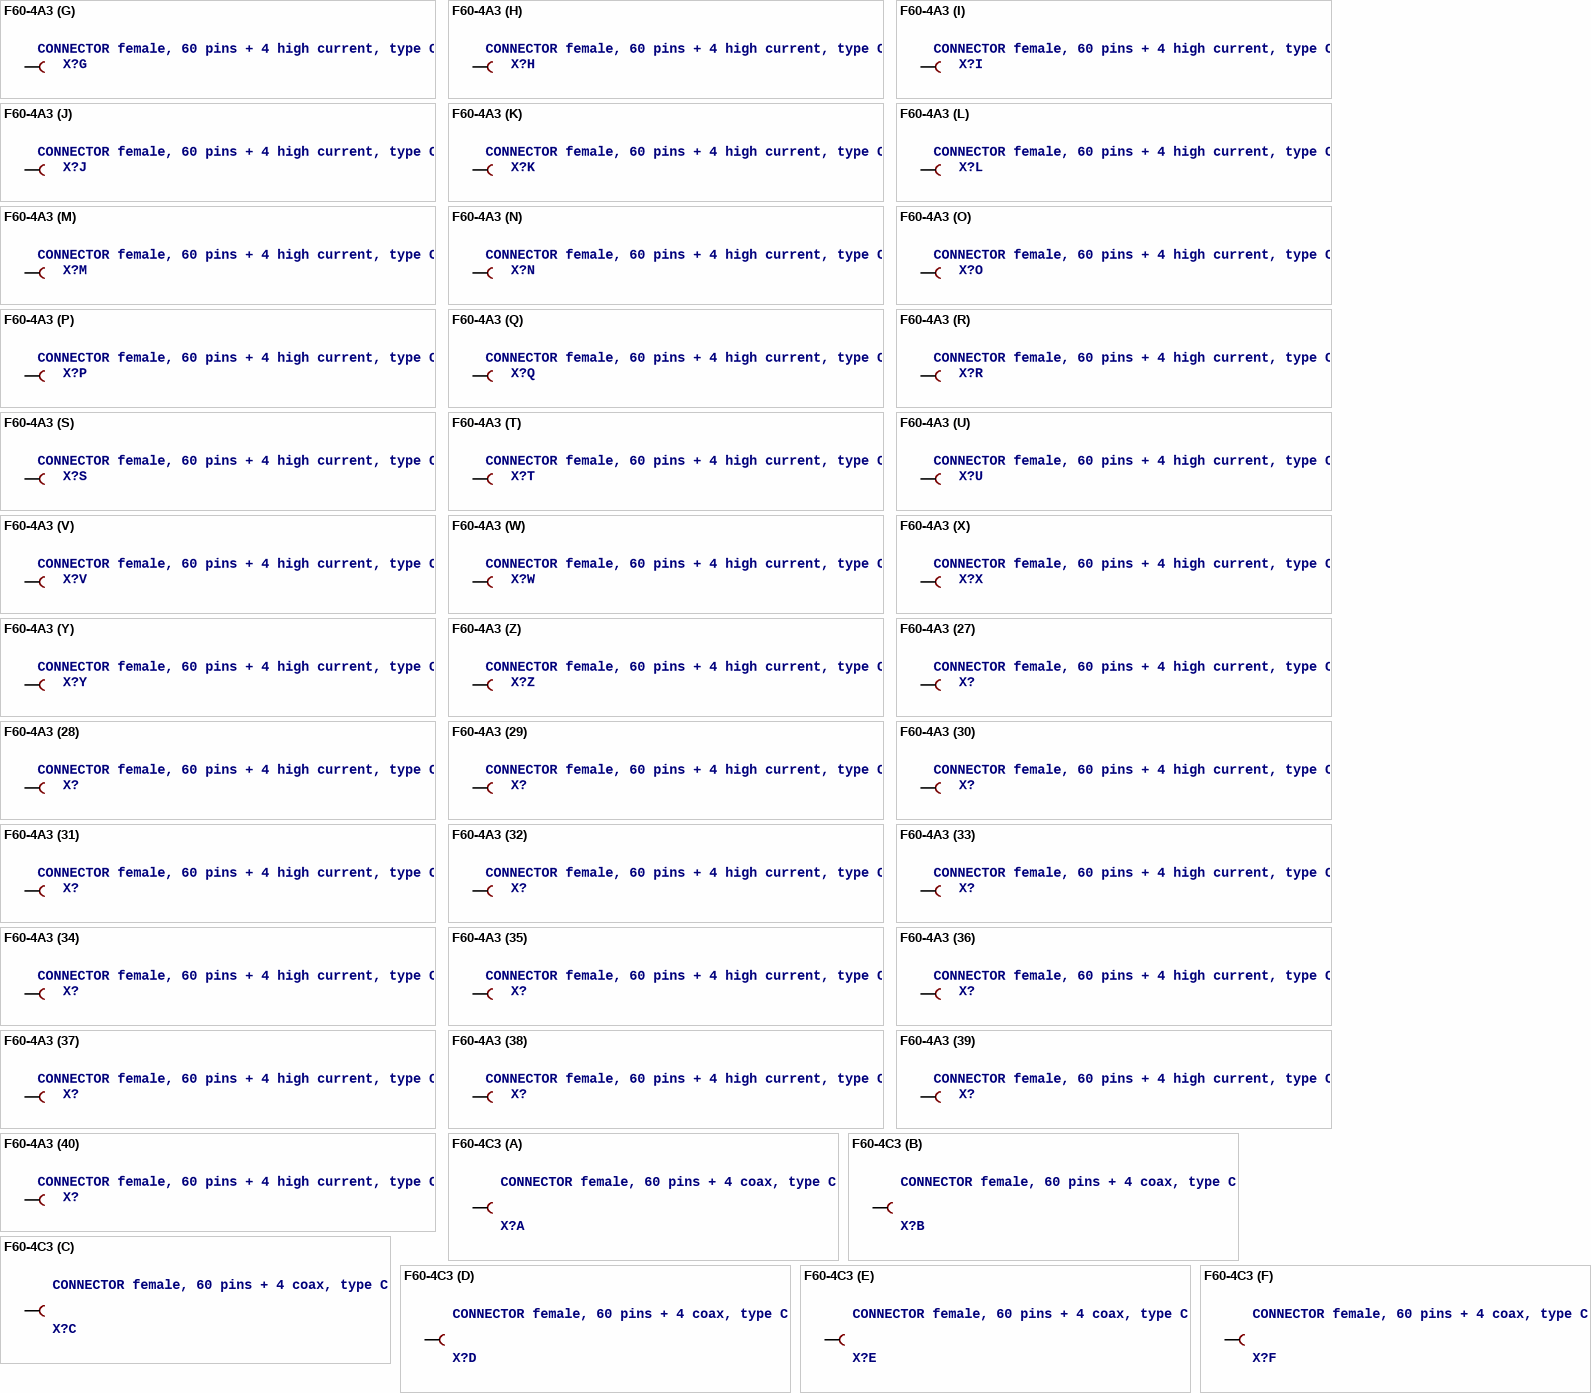
[diagram p13: symbols F60-4A3 to F60-4C3]

## F60-4A3
designator X?, comment CONNECTOR female, 60 pins + 4 high current, type C
footprint F60-4A3
part A pins: A7 B
part B pins: A8 B
part C pins: A9 B
part D pins: A10 B
part E pins: A11 B
part F pins: A12 B
part G pins: A13 B
part H pins: A14 B
part I pins: A15 B
part J pins: A16 B
part K pins: A17 B
part L pins: A18 B
part M pins: A19 B
part N pins: A20 B
part O pins: A21 B
part P pins: A22 B
part Q pins: A23 B
part R pins: A24 B
part S pins: A25 B
part T pins: A26 B
part U pins: B7 B
part V pins: B8 B
part W pins: B9 B
part X pins: B10 B
part Y pins: B11 B
part Z pins: B12 B
part 27 pins: B13 B
part 28 pins: B14 B
part 29 pins: B15 B
part 30 pins: B16 B
part 31 pins: B17 B
part 32 pins: B18 B
part 33 pins: B19 B
part 34 pins: B20 B
part 35 pins: B21 B
part 36 pins: B22 B
part 37 pins: B23 B
part 38 pins: B24 B
part 39 pins: B25 B
part 40 pins: B26 B
part 41 pins: C7 B
part 42 pins: C8 B
part 43 pins: C9 B
part 44 pins: C10 B
part 45 pins: C11 B
part 46 pins: C12 B
part 47 pins: C13 B
part 48 pins: C14 B
part 49 pins: C15 B
part 50 pins: C16 B
part 51 pins: C17 B
part 52 pins: C18 B
part 53 pins: C19 B
part 54 pins: C20 B
part 55 pins: C21 B
part 56 pins: C22 B
part 57 pins: C23 B
part 58 pins: C24 B
part 59 pins: C25 B
part 60 pins: C26 B
part 61 pins: 1 B
part 62 pins: 2 B
part 63 pins: 3 B
part 64 pins: 4 B

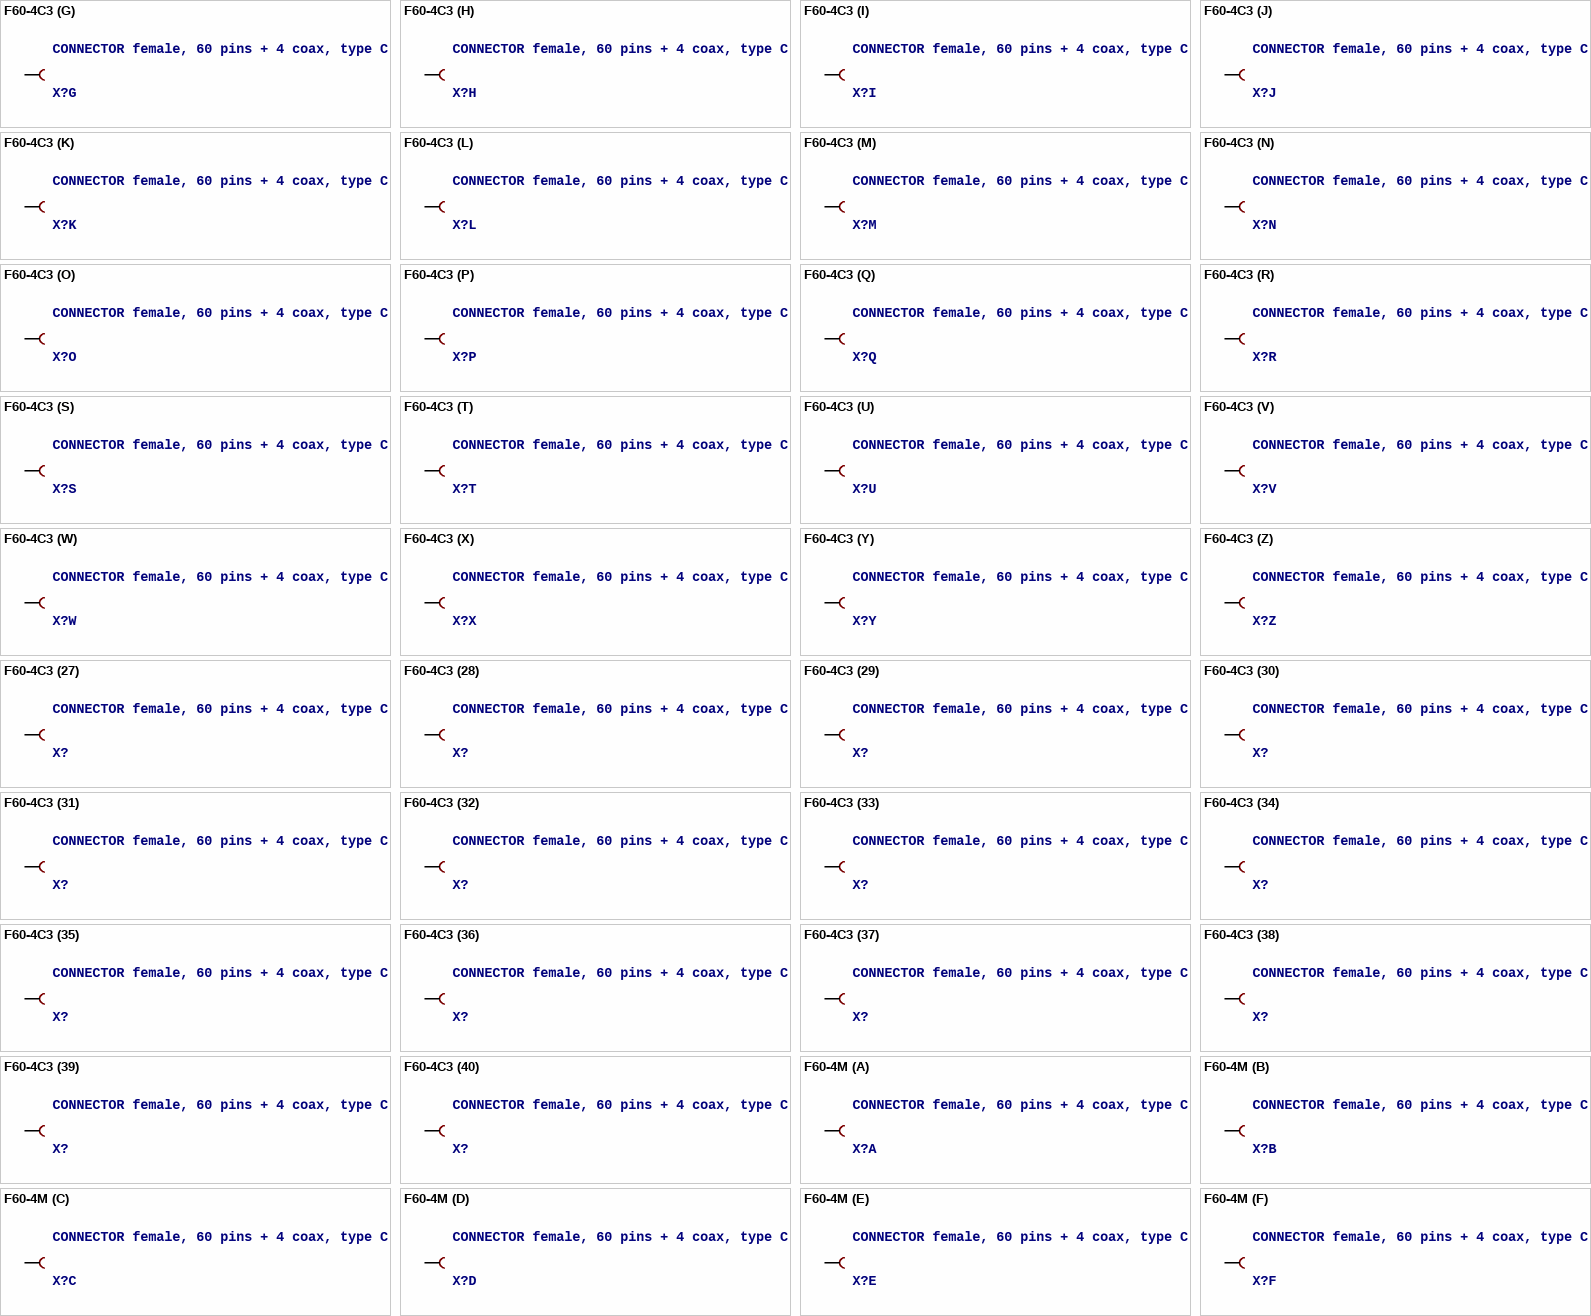
[diagram p14: symbols F60-4C3 to F60-4M]

## F60-4C3
designator X?, comment CONNECTOR female, 60 pins + 4 coax, type C
footprint F60-4C3
part A pins: A7 B
part B pins: A8 B
part C pins: A9 B
part D pins: A10 B
part E pins: A11 B
part F pins: A12 B
part G pins: A13 B
part H pins: A14 B
part I pins: A15 B
part J pins: A16 B
part K pins: A17 B
part L pins: A18 B
part M pins: A19 B
part N pins: A20 B
part O pins: A21 B
part P pins: A22 B
part Q pins: A23 B
part R pins: A24 B
part S pins: A25 B
part T pins: A26 B
part U pins: B7 B
part V pins: B8 B
part W pins: B9 B
part X pins: B10 B
part Y pins: B11 B
part Z pins: B12 B
part 27 pins: B13 B
part 28 pins: B14 B
part 29 pins: B15 B
part 30 pins: B16 B
part 31 pins: B17 B
part 32 pins: B18 B
part 33 pins: B19 B
part 34 pins: B20 B
part 35 pins: B21 B
part 36 pins: B22 B
part 37 pins: B23 B
part 38 pins: B24 B
part 39 pins: B25 B
part 40 pins: B26 B
part 41 pins: C7 B
part 42 pins: C8 B
part 43 pins: C9 B
part 44 pins: C10 B
part 45 pins: C11 B
part 46 pins: C12 B
part 47 pins: C13 B
part 48 pins: C14 B
part 49 pins: C15 B
part 50 pins: C16 B
part 51 pins: C17 B
part 52 pins: C18 B
part 53 pins: C19 B
part 54 pins: C20 B
part 55 pins: C21 B
part 56 pins: C22 B
part 57 pins: C23 B
part 58 pins: C24 B
part 59 pins: C25 B
part 60 pins: C26 B
part 61 pins: A2 S3, B1 S1, B2 S, B3 S2, C2 S4
part 62 pins: A5 S3, B4 S1, B5 S, B6 S2, C5 S4
part 63 pins: A28 S3, B27 S1, B28 S, B29 S2, C28 S4
part 64 pins: A31 S3, B30 S1, B31 S, B32 S2, C31 S4

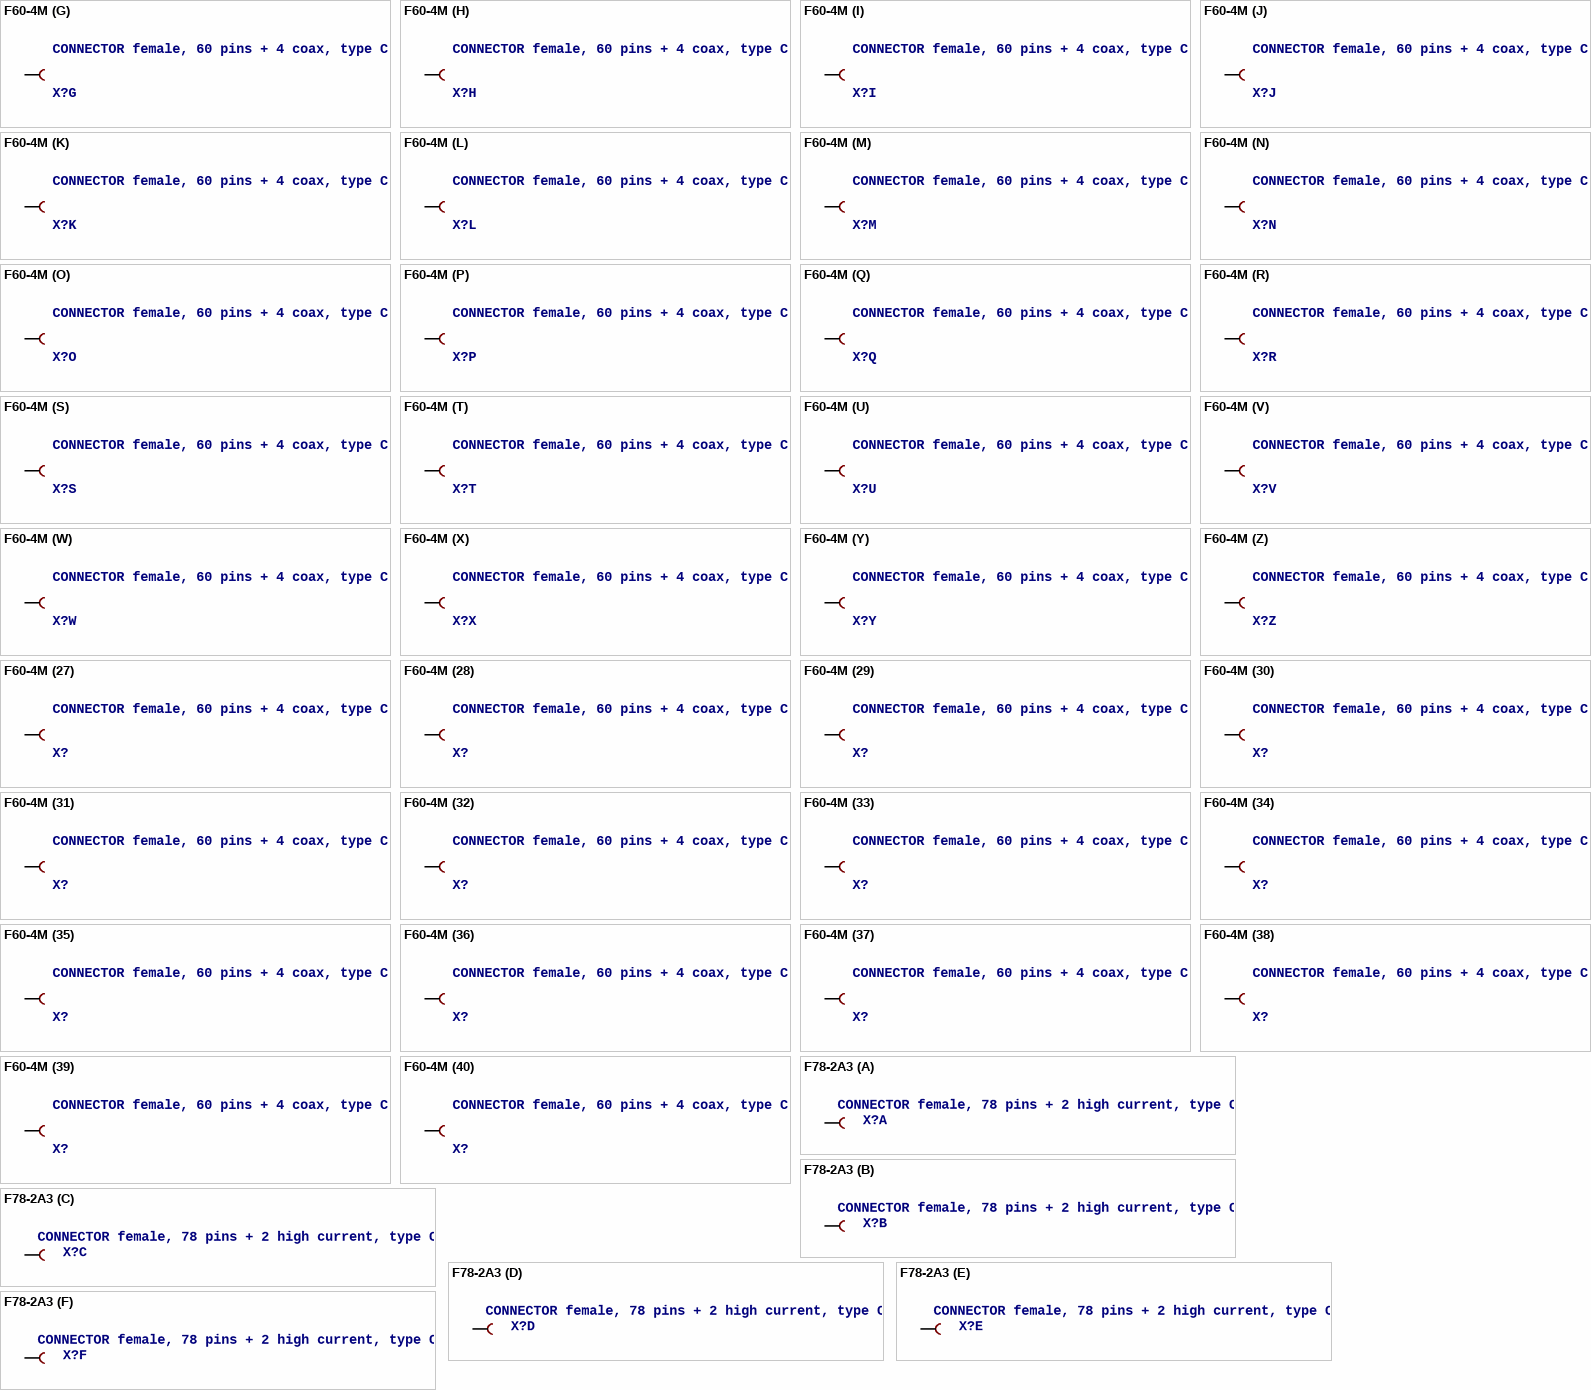
[diagram p15: symbols F60-4M to F78-2A3]

## F60-4M
designator X?, comment CONNECTOR female, 60 pins + 4 coax, type C
footprint F60-4M
part A pins: A7 B
part B pins: A8 B
part C pins: A9 B
part D pins: A10 B
part E pins: A11 B
part F pins: A12 B
part G pins: A13 B
part H pins: A14 B
part I pins: A15 B
part J pins: A16 B
part K pins: A17 B
part L pins: A18 B
part M pins: A19 B
part N pins: A20 B
part O pins: A21 B
part P pins: A22 B
part Q pins: A23 B
part R pins: A24 B
part S pins: A25 B
part T pins: A26 B
part U pins: B7 B
part V pins: B8 B
part W pins: B9 B
part X pins: B10 B
part Y pins: B11 B
part Z pins: B12 B
part 27 pins: B13 B
part 28 pins: B14 B
part 29 pins: B15 B
part 30 pins: B16 B
part 31 pins: B17 B
part 32 pins: B18 B
part 33 pins: B19 B
part 34 pins: B20 B
part 35 pins: B21 B
part 36 pins: B22 B
part 37 pins: B23 B
part 38 pins: B24 B
part 39 pins: B25 B
part 40 pins: B26 B
part 41 pins: C7 B
part 42 pins: C8 B
part 43 pins: C9 B
part 44 pins: C10 B
part 45 pins: C11 B
part 46 pins: C12 B
part 47 pins: C13 B
part 48 pins: C14 B
part 49 pins: C15 B
part 50 pins: C16 B
part 51 pins: C17 B
part 52 pins: C18 B
part 53 pins: C19 B
part 54 pins: C20 B
part 55 pins: C21 B
part 56 pins: C22 B
part 57 pins: C23 B
part 58 pins: C24 B
part 59 pins: C25 B
part 60 pins: C26 B
part 61 pins: A2 S3, B1 S1, B2 S, B3 S2, C2 S4
part 62 pins: A5 S3, B4 S1, B5 S, B6 S2, C5 S4
part 63 pins: A28 S3, B27 S1, B28 S, B29 S2, C28 S4
part 64 pins: A31 S3, B30 S1, B31 S, B32 S2, C31 S4

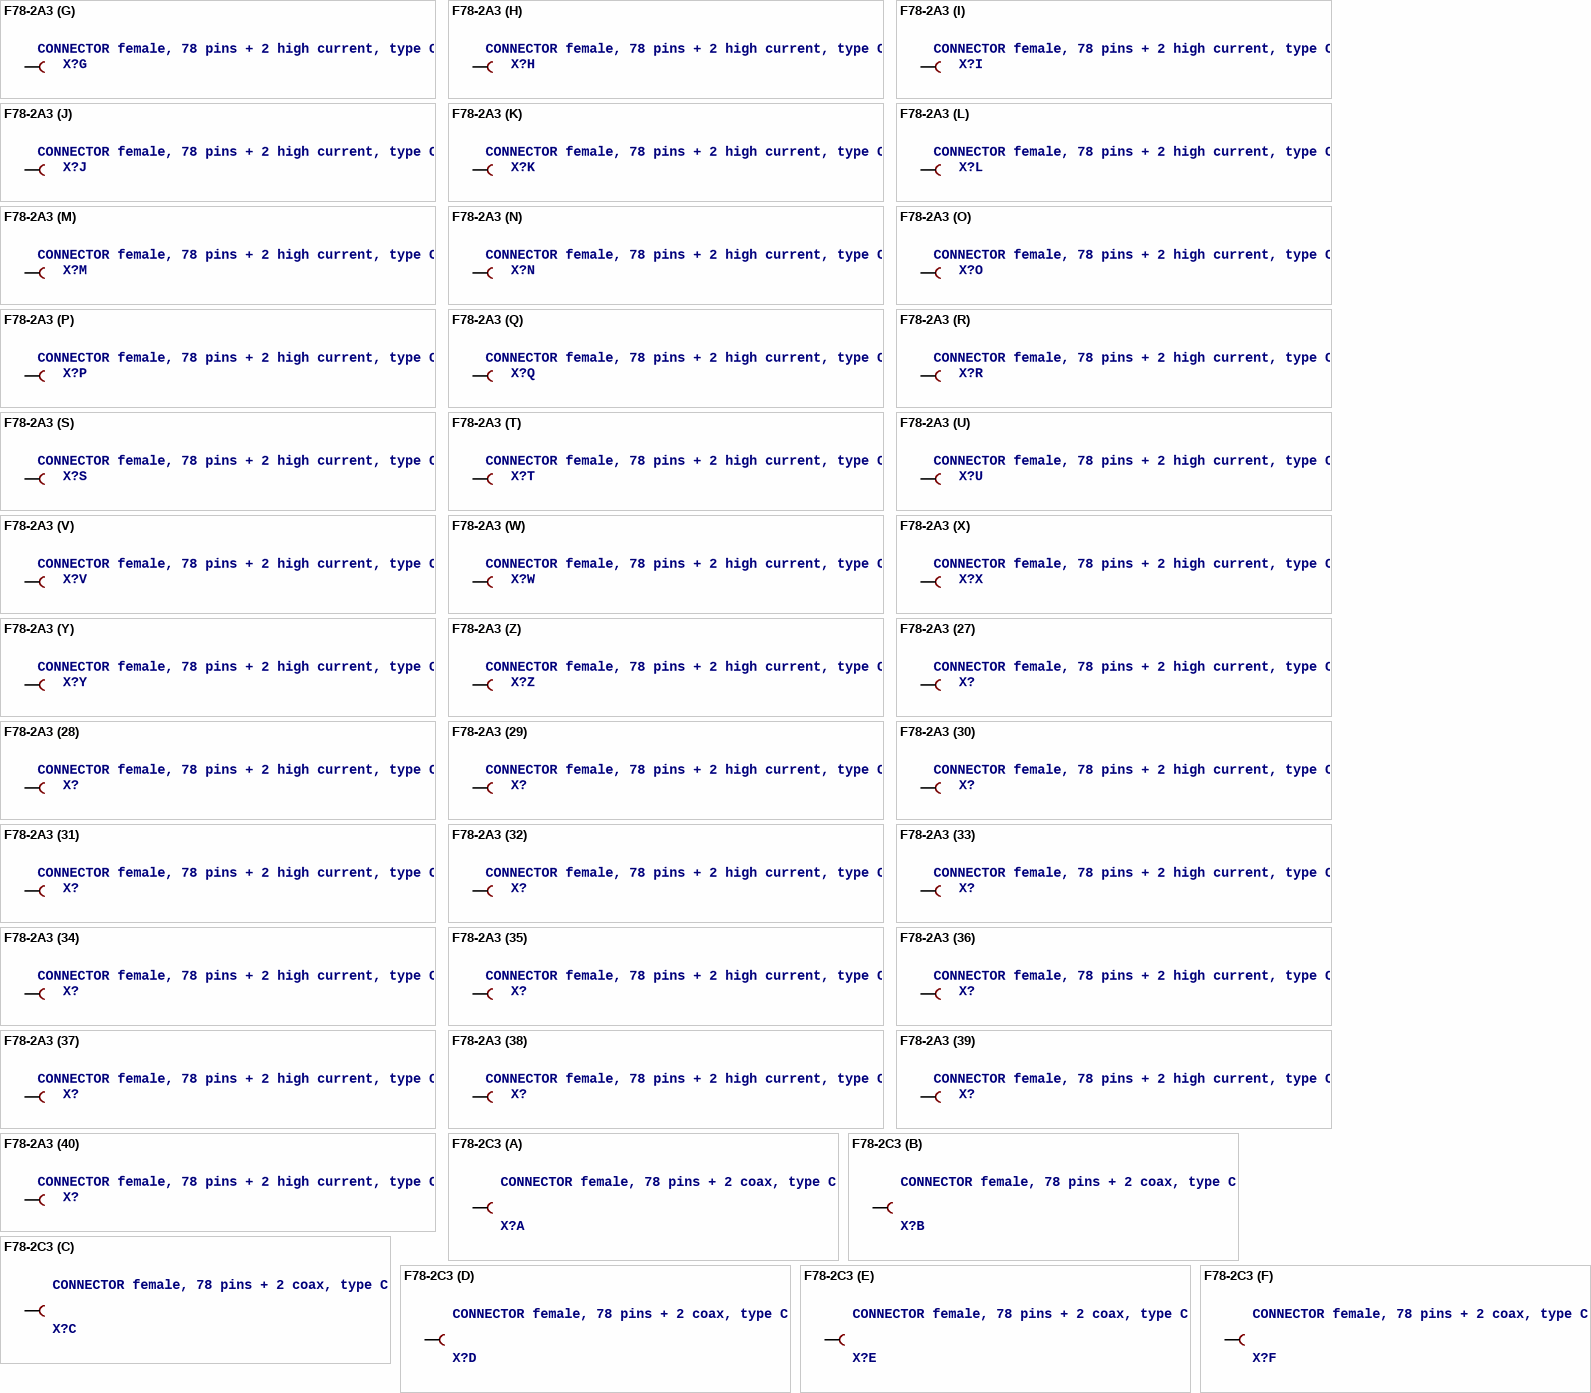
[diagram p16: symbols F78-2A3 to F78-2C3]

## F78-2A3
designator X?, comment CONNECTOR female, 78 pins + 2 high current, type C
footprint F78-2A3
part A pins: A4 B
part B pins: A5 B
part C pins: A6 B
part D pins: A7 B
part E pins: A8 B
part F pins: A9 B
part G pins: A10 B
part H pins: A11 B
part I pins: A12 B
part J pins: A13 B
part K pins: A14 B
part L pins: A15 B
part M pins: A16 B
part N pins: A17 B
part O pins: A18 B
part P pins: A19 B
part Q pins: A20 B
part R pins: A21 B
part S pins: A22 B
part T pins: A23 B
part U pins: A24 B
part V pins: A25 B
part W pins: A26 B
part X pins: A27 B
part Y pins: A28 B
part Z pins: A29 B
part 27 pins: B4 B
part 28 pins: B5 B
part 29 pins: B6 B
part 30 pins: B7 B
part 31 pins: B8 B
part 32 pins: B9 B
part 33 pins: B10 B
part 34 pins: B11 B
part 35 pins: B12 B
part 36 pins: B13 B
part 37 pins: B14 B
part 38 pins: B15 B
part 39 pins: B16 B
part 40 pins: B17 B
part 41 pins: B18 B
part 42 pins: B19 B
part 43 pins: B20 B
part 44 pins: B21 B
part 45 pins: B22 B
part 46 pins: B23 B
part 47 pins: B24 B
part 48 pins: B25 B
part 49 pins: B26 B
part 50 pins: B27 B
part 51 pins: B28 B
part 52 pins: B29 B
part 53 pins: C4 B
part 54 pins: C5 B
part 55 pins: C6 B
part 56 pins: C7 B
part 57 pins: C8 B
part 58 pins: C9 B
part 59 pins: C10 B
part 60 pins: C11 B
part 61 pins: C12 B
part 62 pins: C13 B
part 63 pins: C14 B
part 64 pins: C15 B
part 65 pins: C16 B
part 66 pins: C17 B
part 67 pins: C18 B
part 68 pins: C19 B
part 69 pins: C20 B
part 70 pins: C21 B
part 71 pins: C22 B
part 72 pins: C23 B
part 73 pins: C24 B
part 74 pins: C25 B
part 75 pins: C26 B
part 76 pins: C27 B
part 77 pins: C28 B
part 78 pins: C29 B
part 79 pins: 1 B
part 80 pins: 2 B

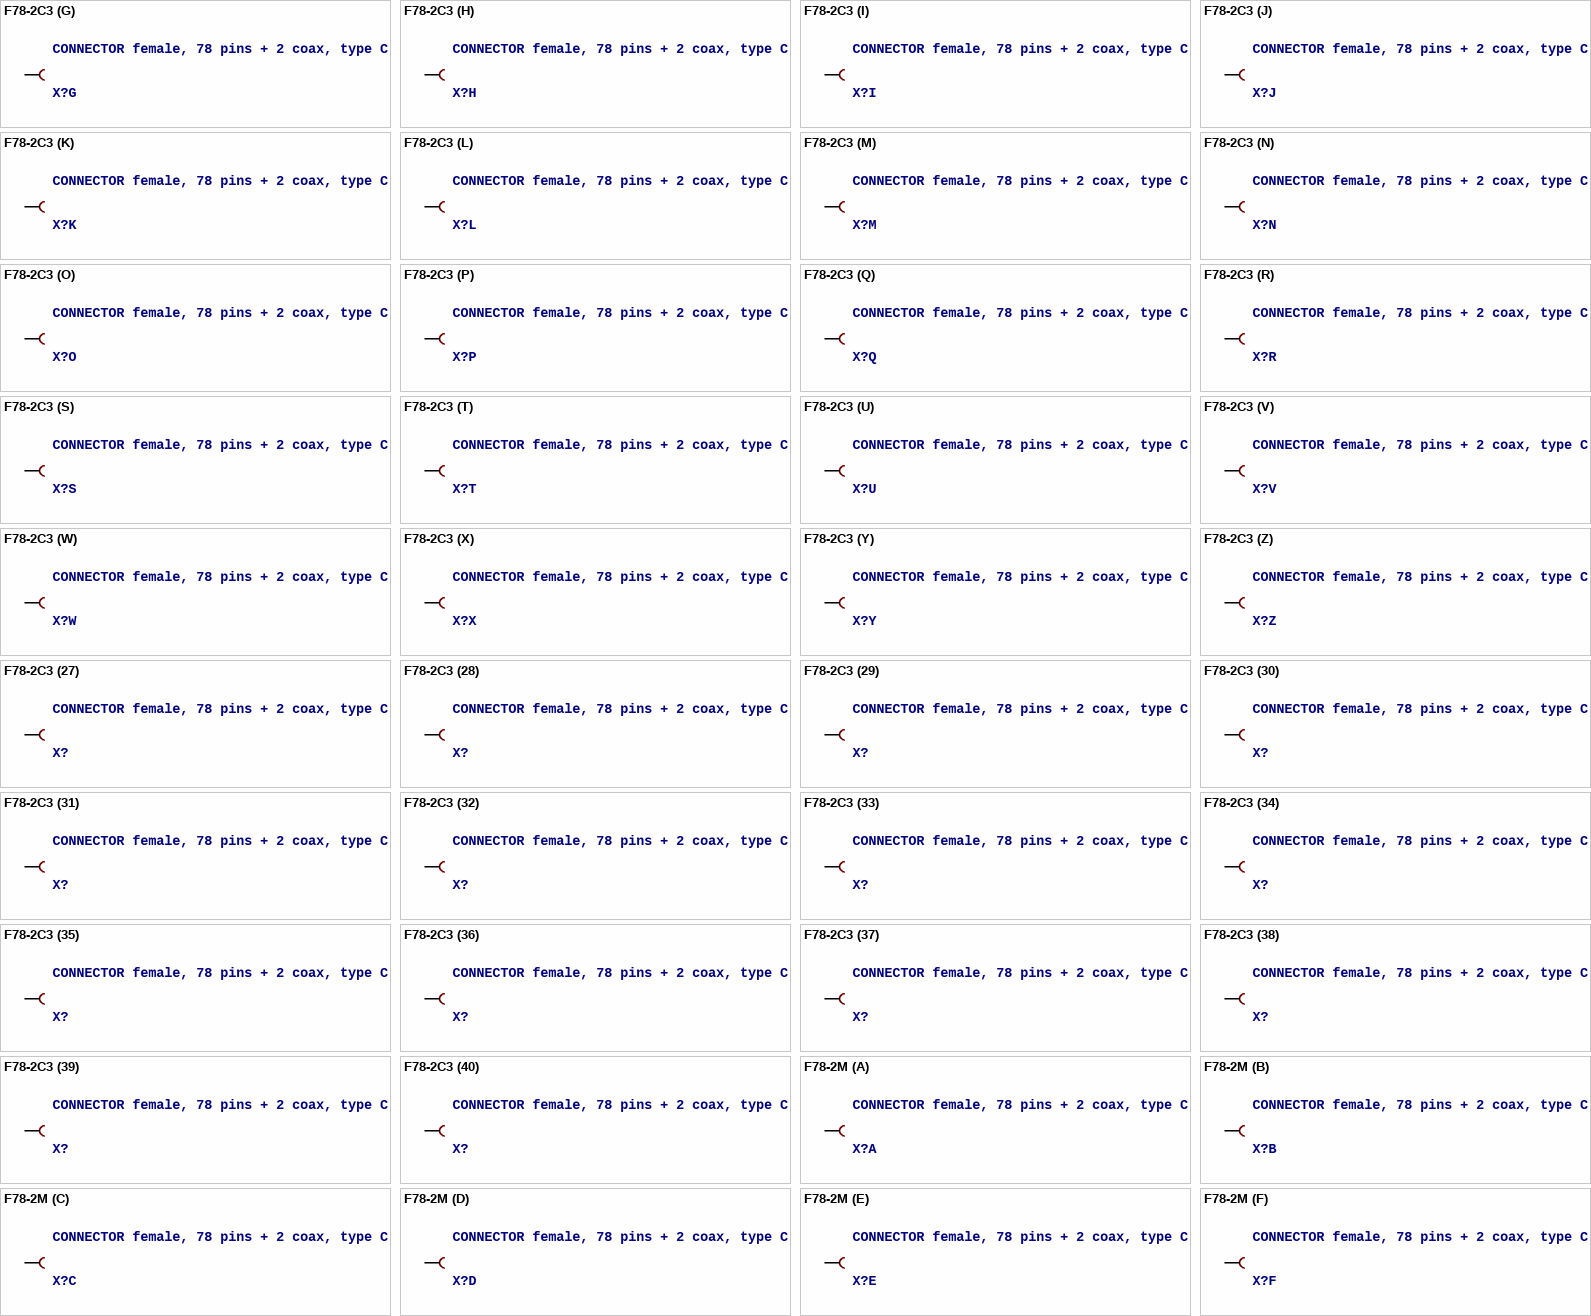
[diagram p17: symbols F78-2C3 to F78-2M]

## F78-2C3
designator X?, comment CONNECTOR female, 78 pins + 2 coax, type C
footprint F78-2C3
part A pins: A4 B
part B pins: A5 B
part C pins: A6 B
part D pins: A7 B
part E pins: A8 B
part F pins: A9 B
part G pins: A10 B
part H pins: A11 B
part I pins: A12 B
part J pins: A13 B
part K pins: A14 B
part L pins: A15 B
part M pins: A16 B
part N pins: A17 B
part O pins: A18 B
part P pins: A19 B
part Q pins: A20 B
part R pins: A21 B
part S pins: A22 B
part T pins: A23 B
part U pins: A24 B
part V pins: A25 B
part W pins: A26 B
part X pins: A27 B
part Y pins: A28 B
part Z pins: A29 B
part 27 pins: B4 B
part 28 pins: B5 B
part 29 pins: B6 B
part 30 pins: B7 B
part 31 pins: B8 B
part 32 pins: B9 B
part 33 pins: B10 B
part 34 pins: B11 B
part 35 pins: B12 B
part 36 pins: B13 B
part 37 pins: B14 B
part 38 pins: B15 B
part 39 pins: B16 B
part 40 pins: B17 B
part 41 pins: B18 B
part 42 pins: B19 B
part 43 pins: B20 B
part 44 pins: B21 B
part 45 pins: B22 B
part 46 pins: B23 B
part 47 pins: B24 B
part 48 pins: B25 B
part 49 pins: B26 B
part 50 pins: B27 B
part 51 pins: B28 B
part 52 pins: B29 B
part 53 pins: C4 B
part 54 pins: C5 B
part 55 pins: C6 B
part 56 pins: C7 B
part 57 pins: C8 B
part 58 pins: C9 B
part 59 pins: C10 B
part 60 pins: C11 B
part 61 pins: C12 B
part 62 pins: C13 B
part 63 pins: C14 B
part 64 pins: C15 B
part 65 pins: C16 B
part 66 pins: C17 B
part 67 pins: C18 B
part 68 pins: C19 B
part 69 pins: C20 B
part 70 pins: C21 B
part 71 pins: C22 B
part 72 pins: C23 B
part 73 pins: C24 B
part 74 pins: C25 B
part 75 pins: C26 B
part 76 pins: C27 B
part 77 pins: C28 B
part 78 pins: C29 B
part 79 pins: A2 S3, B1 S1, B2 S, B3 S2, C2 S4
part 80 pins: A31 S3, B30 S1, B31 S, B32 S2, C31 S4

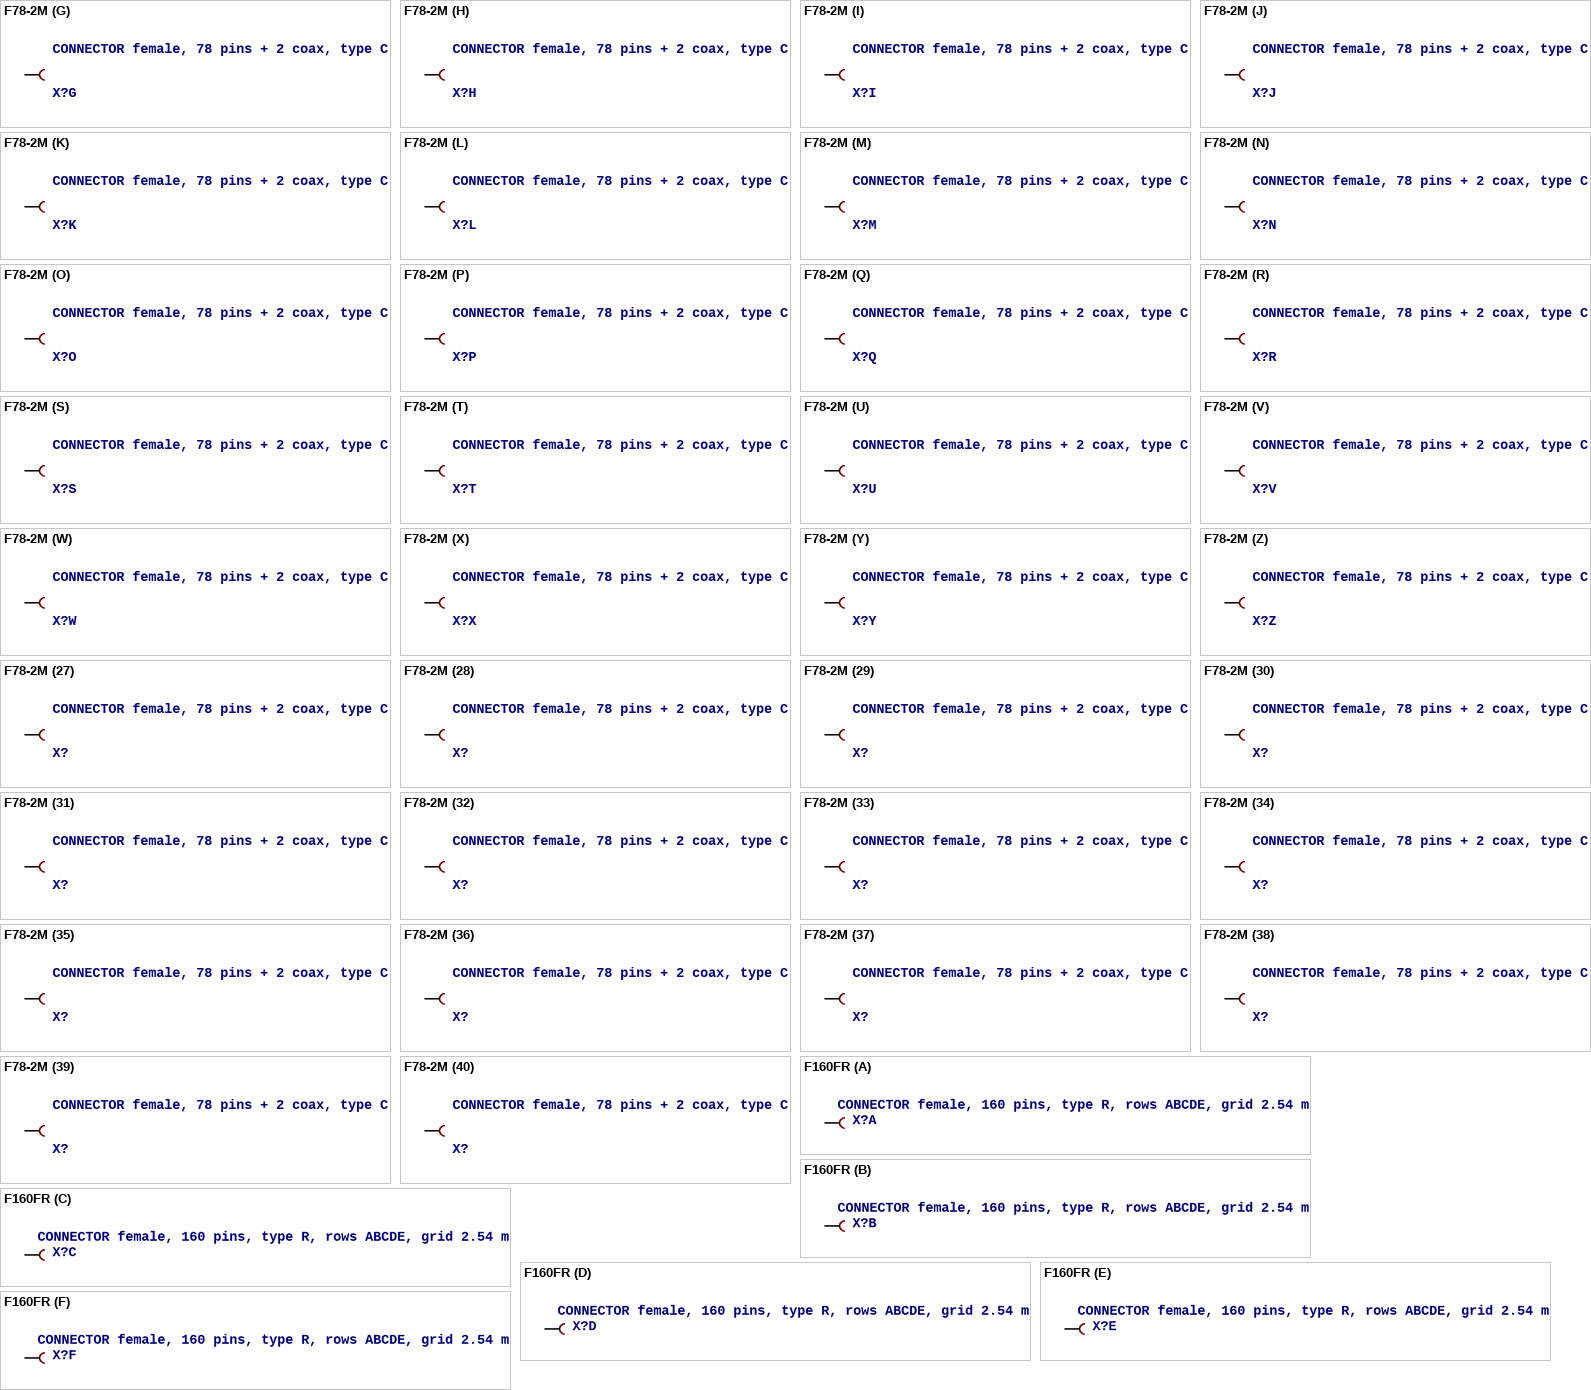
[diagram p18: symbols F78-2M to F160FR]

## F78-2M
designator X?, comment CONNECTOR female, 78 pins + 2 coax, type C
footprint F78-2M
part A pins: A4 B
part B pins: A5 B
part C pins: A6 B
part D pins: A7 B
part E pins: A8 B
part F pins: A9 B
part G pins: A10 B
part H pins: A11 B
part I pins: A12 B
part J pins: A13 B
part K pins: A14 B
part L pins: A15 B
part M pins: A16 B
part N pins: A17 B
part O pins: A18 B
part P pins: A19 B
part Q pins: A20 B
part R pins: A21 B
part S pins: A22 B
part T pins: A23 B
part U pins: A24 B
part V pins: A25 B
part W pins: A26 B
part X pins: A27 B
part Y pins: A28 B
part Z pins: A29 B
part 27 pins: B4 B
part 28 pins: B5 B
part 29 pins: B6 B
part 30 pins: B7 B
part 31 pins: B8 B
part 32 pins: B9 B
part 33 pins: B10 B
part 34 pins: B11 B
part 35 pins: B12 B
part 36 pins: B13 B
part 37 pins: B14 B
part 38 pins: B15 B
part 39 pins: B16 B
part 40 pins: B17 B
part 41 pins: B18 B
part 42 pins: B19 B
part 43 pins: B20 B
part 44 pins: B21 B
part 45 pins: B22 B
part 46 pins: B23 B
part 47 pins: B24 B
part 48 pins: B25 B
part 49 pins: B26 B
part 50 pins: B27 B
part 51 pins: B28 B
part 52 pins: B29 B
part 53 pins: C4 B
part 54 pins: C5 B
part 55 pins: C6 B
part 56 pins: C7 B
part 57 pins: C8 B
part 58 pins: C9 B
part 59 pins: C10 B
part 60 pins: C11 B
part 61 pins: C12 B
part 62 pins: C13 B
part 63 pins: C14 B
part 64 pins: C15 B
part 65 pins: C16 B
part 66 pins: C17 B
part 67 pins: C18 B
part 68 pins: C19 B
part 69 pins: C20 B
part 70 pins: C21 B
part 71 pins: C22 B
part 72 pins: C23 B
part 73 pins: C24 B
part 74 pins: C25 B
part 75 pins: C26 B
part 76 pins: C27 B
part 77 pins: C28 B
part 78 pins: C29 B
part 79 pins: A2 S3, B1 S1, B2 S, B3 S2, C2 S4
part 80 pins: A31 S3, B30 S1, B31 S, B32 S2, C31 S4

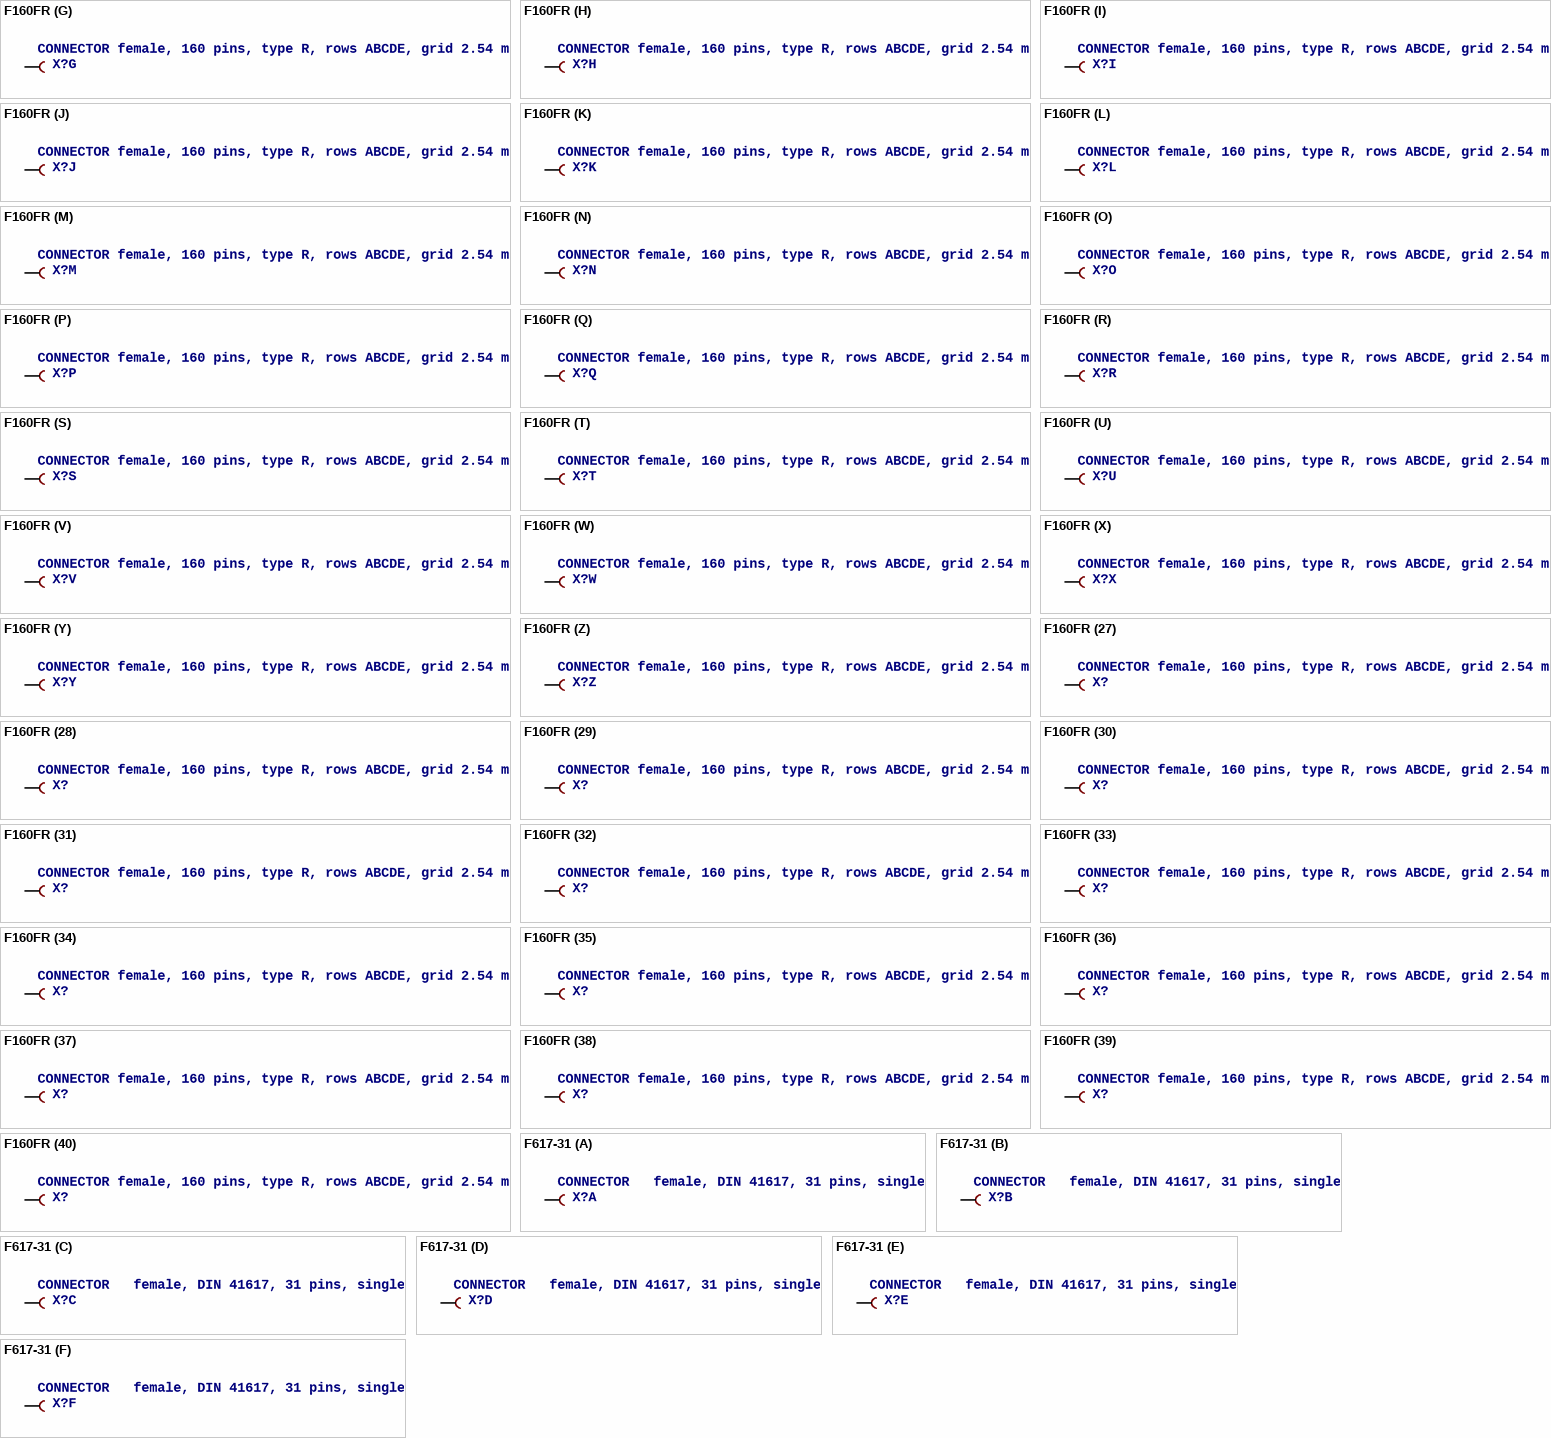
[diagram p19: symbols F160FR to F617-31]

## F160FR
designator X?, comment CONNECTOR female, 160 pins, type R, rows ABCDE, grid 2.54 mm
footprint F160FR
part A pins: A1 B
part B pins: A2 B
part C pins: A3 B
part D pins: A4 B
part E pins: A5 B
part F pins: A6 B
part G pins: A7 B
part H pins: A8 B
part I pins: A9 B
part J pins: A10 B
part K pins: A11 B
part L pins: A12 B
part M pins: A13 B
part N pins: A14 B
part O pins: A15 B
part P pins: A16 B
part Q pins: A17 B
part R pins: A18 B
part S pins: A19 B
part T pins: A20 B
part U pins: A21 B
part V pins: A22 B
part W pins: A23 B
part X pins: A24 B
part Y pins: A25 B
part Z pins: A26 B
part 27 pins: A27 B
part 28 pins: A28 B
part 29 pins: A29 B
part 30 pins: A30 B
part 31 pins: A31 B
part 32 pins: A32 B
part 33 pins: B1 B
part 34 pins: B2 B
part 35 pins: B3 B
part 36 pins: B4 B
part 37 pins: B5 B
part 38 pins: B6 B
part 39 pins: B7 B
part 40 pins: B8 B
part 41 pins: B9 B
part 42 pins: B10 B
part 43 pins: B11 B
part 44 pins: B12 B
part 45 pins: B13 B
part 46 pins: B14 B
part 47 pins: B15 B
part 48 pins: B16 B
part 49 pins: B17 B
part 50 pins: B18 B
part 51 pins: B19 B
part 52 pins: B20 B
part 53 pins: B21 B
part 54 pins: B22 B
part 55 pins: B23 B
part 56 pins: B24 B
part 57 pins: B25 B
part 58 pins: B26 B
part 59 pins: B27 B
part 60 pins: B28 B
part 61 pins: B29 B
part 62 pins: B30 B
part 63 pins: B31 B
part 64 pins: B32 B
part 65 pins: C1 B
part 66 pins: C2 B
part 67 pins: C3 B
part 68 pins: C4 B
part 69 pins: C5 B
part 70 pins: C6 B
part 71 pins: C7 B
part 72 pins: C8 B
part 73 pins: C9 B
part 74 pins: C10 B
part 75 pins: C11 B
part 76 pins: C12 B
part 77 pins: C13 B
part 78 pins: C14 B
part 79 pins: C15 B
part 80 pins: C16 B
part 81 pins: C17 B
part 82 pins: C18 B
part 83 pins: C19 B
part 84 pins: C20 B
part 85 pins: C21 B
part 86 pins: C22 B
part 87 pins: C23 B
part 88 pins: C24 B
part 89 pins: C25 B
part 90 pins: C26 B
part 91 pins: C27 B
part 92 pins: C28 B
part 93 pins: C29 B
part 94 pins: C30 B
part 95 pins: C31 B
part 96 pins: C32 B
part 97 pins: D1 B
part 98 pins: D2 B
part 99 pins: D3 B
part 100 pins: D4 B
part 101 pins: D5 B
part 102 pins: D6 B
part 103 pins: D7 B
part 104 pins: D8 B
part 105 pins: D9 B
part 106 pins: D10 B
part 107 pins: D11 B
part 108 pins: D12 B
part 109 pins: D13 B
part 110 pins: D14 B
part 111 pins: D15 B
part 112 pins: D16 B
part 113 pins: D17 B
part 114 pins: D18 B
part 115 pins: D19 B
part 116 pins: D20 B
part 117 pins: D21 B
part 118 pins: D22 B
part 119 pins: D23 B
part 120 pins: D24 B
part 121 pins: D25 B
part 122 pins: D26 B
part 123 pins: D27 B
part 124 pins: D28 B
part 125 pins: D29 B
part 126 pins: D30 B
part 127 pins: D31 B
part 128 pins: D32 B
part 129 pins: E1 B
part 130 pins: E2 B
part 131 pins: E3 B
part 132 pins: E4 B
part 133 pins: E5 B
part 134 pins: E6 B
part 135 pins: E7 B
part 136 pins: E8 B
part 137 pins: E9 B
part 138 pins: E10 B
part 139 pins: E11 B
part 140 pins: E12 B
part 141 pins: E13 B
part 142 pins: E14 B
part 143 pins: E15 B
part 144 pins: E16 B
part 145 pins: E17 B
part 146 pins: E18 B
part 147 pins: E19 B
part 148 pins: E20 B
part 149 pins: E21 B
part 150 pins: E22 B
part 151 pins: E23 B
part 152 pins: E24 B
part 153 pins: E25 B
part 154 pins: E26 B
part 155 pins: E27 B
part 156 pins: E28 B
part 157 pins: E29 B
part 158 pins: E30 B
part 159 pins: E31 B
part 160 pins: E32 B

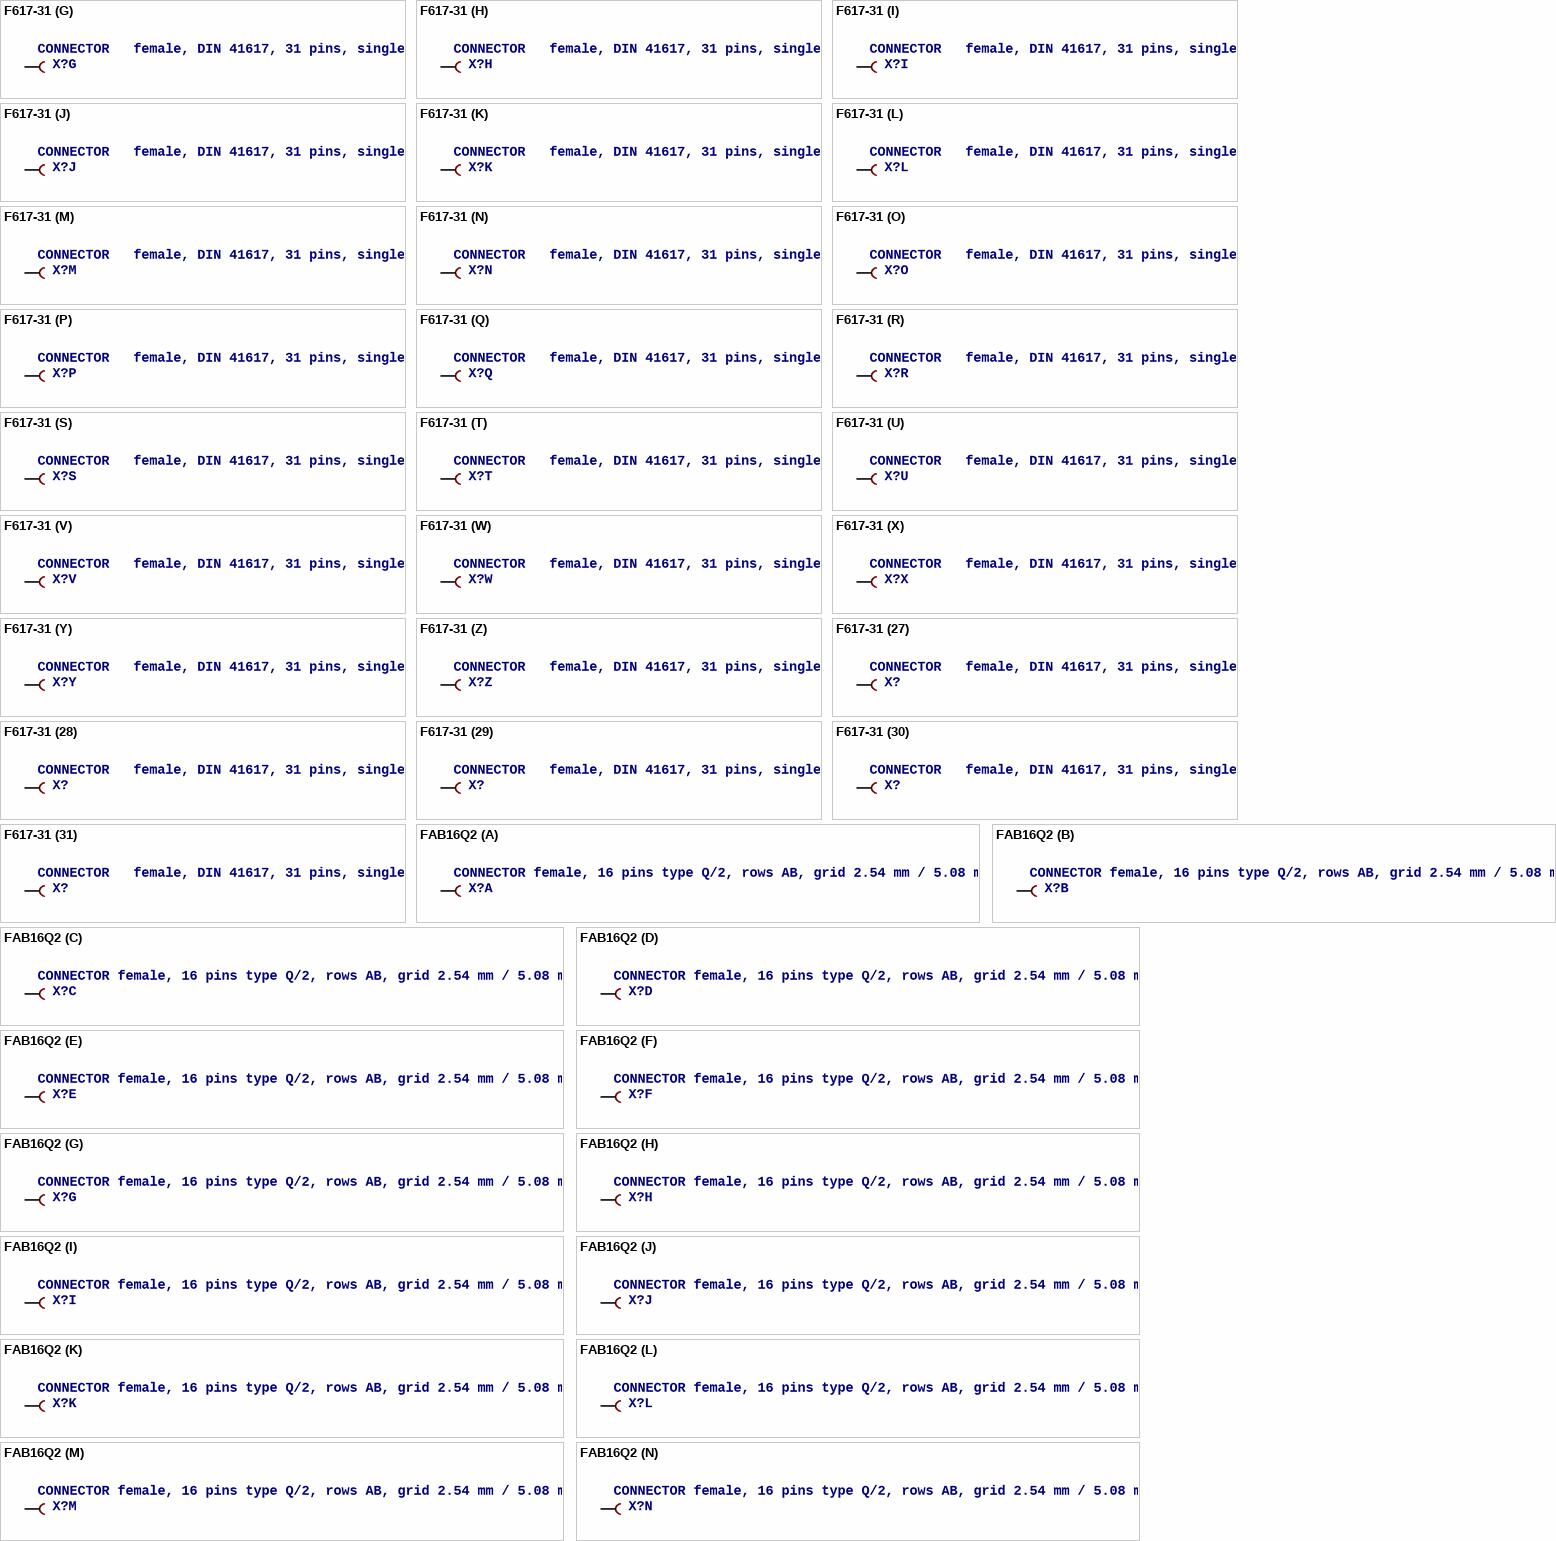
[diagram p20: symbols F617-31 to FAB16Q2]

## F617-31
designator X?, comment CONNECTOR   female, DIN 41617, 31 pins, single
footprint F617-31
part A pins: 1 B
part B pins: 2 B
part C pins: 3 B
part D pins: 4 B
part E pins: 5 B
part F pins: 6 B
part G pins: 7 B
part H pins: 8 B
part I pins: 9 B
part J pins: 10 B
part K pins: 11 B
part L pins: 12 B
part M pins: 13 B
part N pins: 14 B
part O pins: 15 B
part P pins: 16 B
part Q pins: 17 B
part R pins: 18 B
part S pins: 19 B
part T pins: 20 B
part U pins: 21 B
part V pins: 22 B
part W pins: 23 B
part X pins: 24 B
part Y pins: 25 B
part Z pins: 26 B
part 27 pins: 27 B
part 28 pins: 28 B
part 29 pins: 29 B
part 30 pins: 30 B
part 31 pins: 31 B

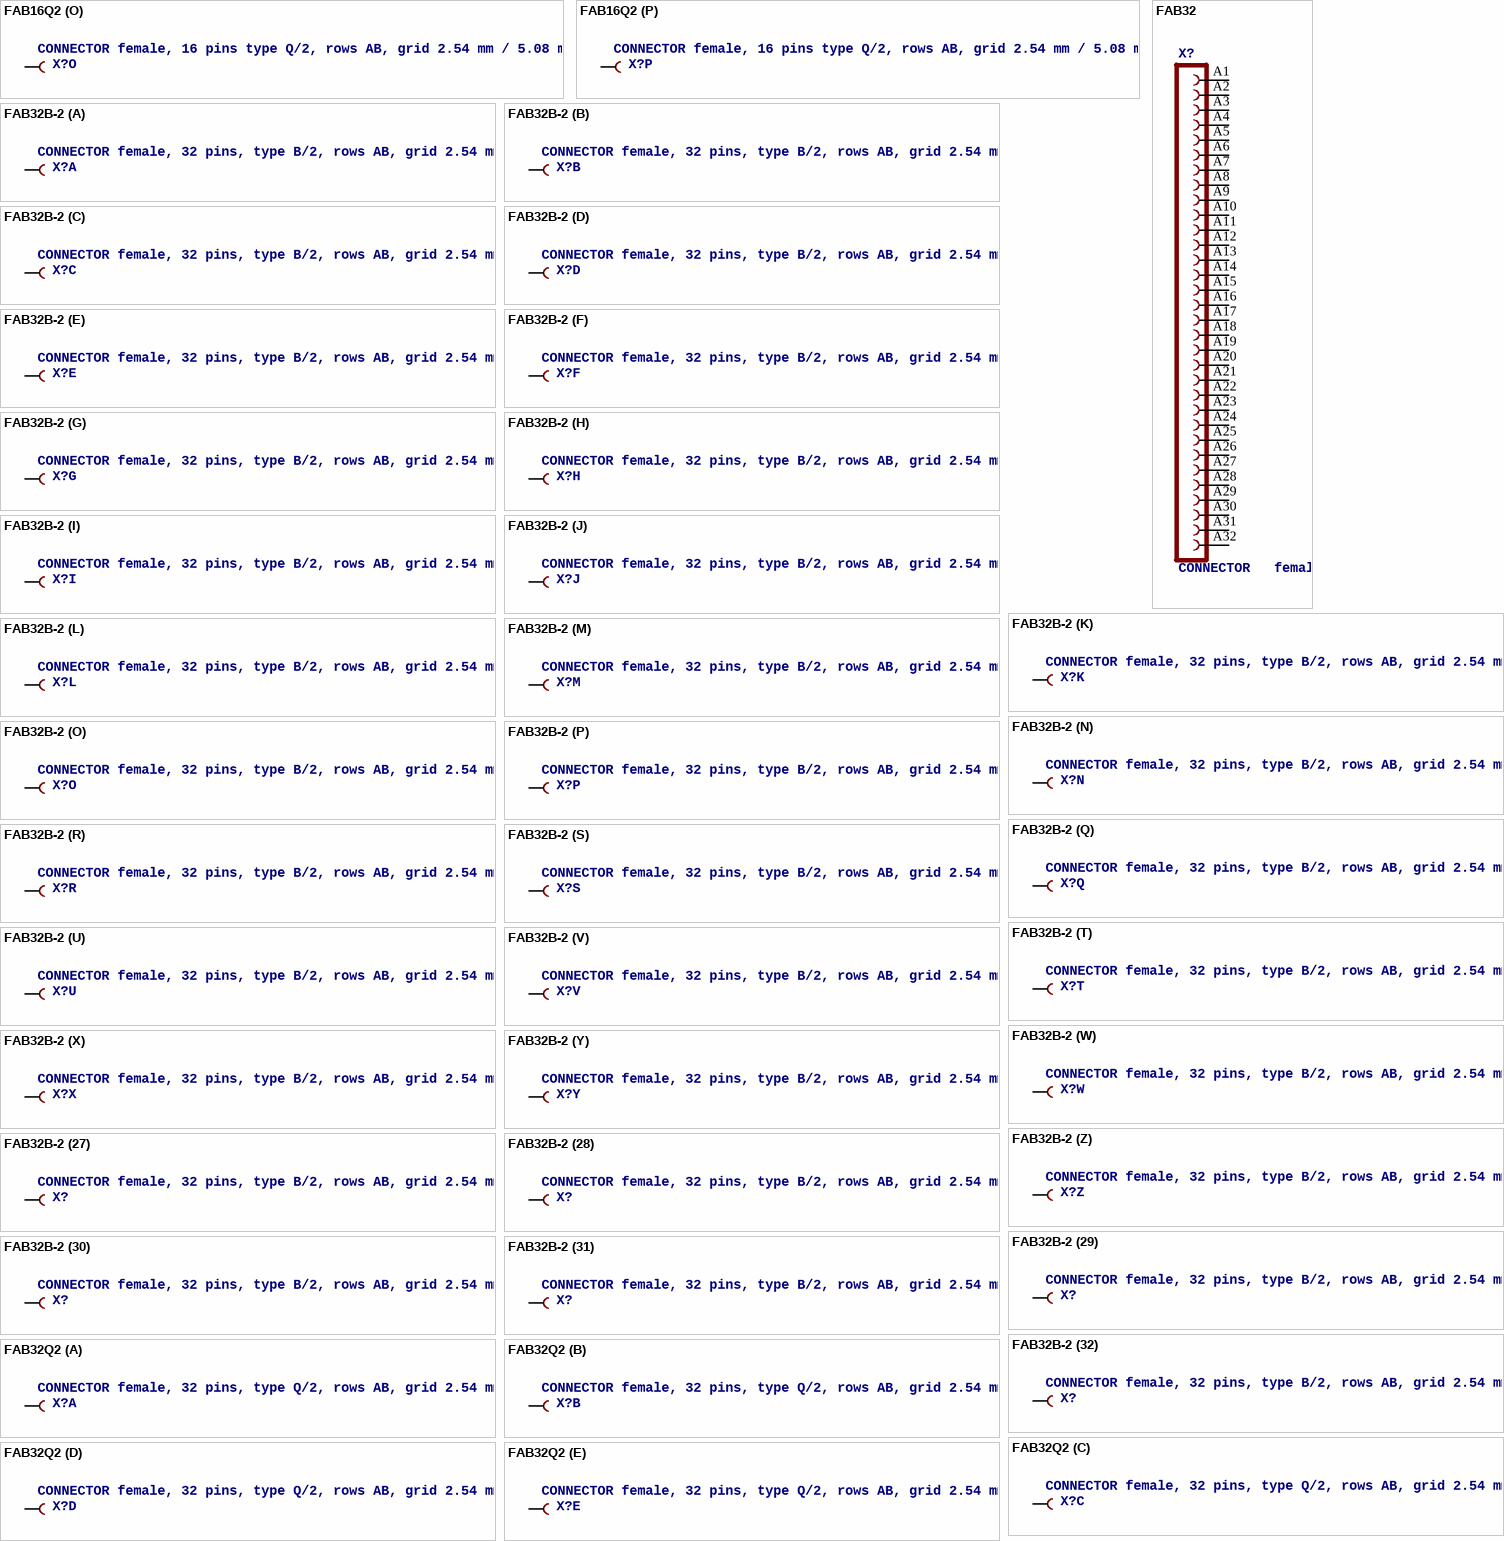
[diagram p21: symbols FAB16Q2 to FAB32Q2]

## FAB16Q2
designator X?, comment CONNECTOR female, 16 pins type Q/2, rows AB, grid 2.54 mm / 5.08 mm
footprint FAB16Q2
part A pins: A4 B
part B pins: A6 B
part C pins: A8 B
part D pins: A10 B
part E pins: A12 B
part F pins: A14 B
part G pins: A16 B
part H pins: B4 B
part I pins: B6 B
part J pins: B8 B
part K pins: B10 B
part L pins: B12 B
part M pins: B14 B
part N pins: B16 B
part O pins: A2 B
part P pins: B2 B

## FAB32
designator X?, comment CONNECTOR   female, 32 pins, block, type B, row A, grid 2.54 mm
footprint FAB32
pins: A1 1, A2 2, A3 3, A4 4, A5 5, A6 6, A7 7, A8 8, A9 9, A10 10, A11 11, A12 12, A13 13, A14 14, A15 15, A16 16, A17 17, A18 18, A19 19, A20 20, A21 21, A22 22, A23 23, A24 24, A25 25, A26 26, A27 27, A28 28, A29 29, A30 30, A31 31, A32 32

## FAB32B-2
designator X?, comment CONNECTOR female, 32 pins, type B/2, rows AB, grid 2.54 mm
footprint FAB32B-2
part A pins: A1 B
part B pins: A2 B
part C pins: A3 B
part D pins: A4 B
part E pins: A5 B
part F pins: A6 B
part G pins: A7 B
part H pins: A8 B
part I pins: A9 B
part J pins: A10 B
part K pins: A11 B
part L pins: A12 B
part M pins: A13 B
part N pins: A14 B
part O pins: A15 B
part P pins: A16 B
part Q pins: B1 B
part R pins: B2 B
part S pins: B3 B
part T pins: B4 B
part U pins: B5 B
part V pins: B6 B
part W pins: B7 B
part X pins: B8 B
part Y pins: B9 B
part Z pins: B10 B
part 27 pins: B11 B
part 28 pins: B12 B
part 29 pins: B13 B
part 30 pins: B14 B
part 31 pins: B15 B
part 32 pins: B16 B

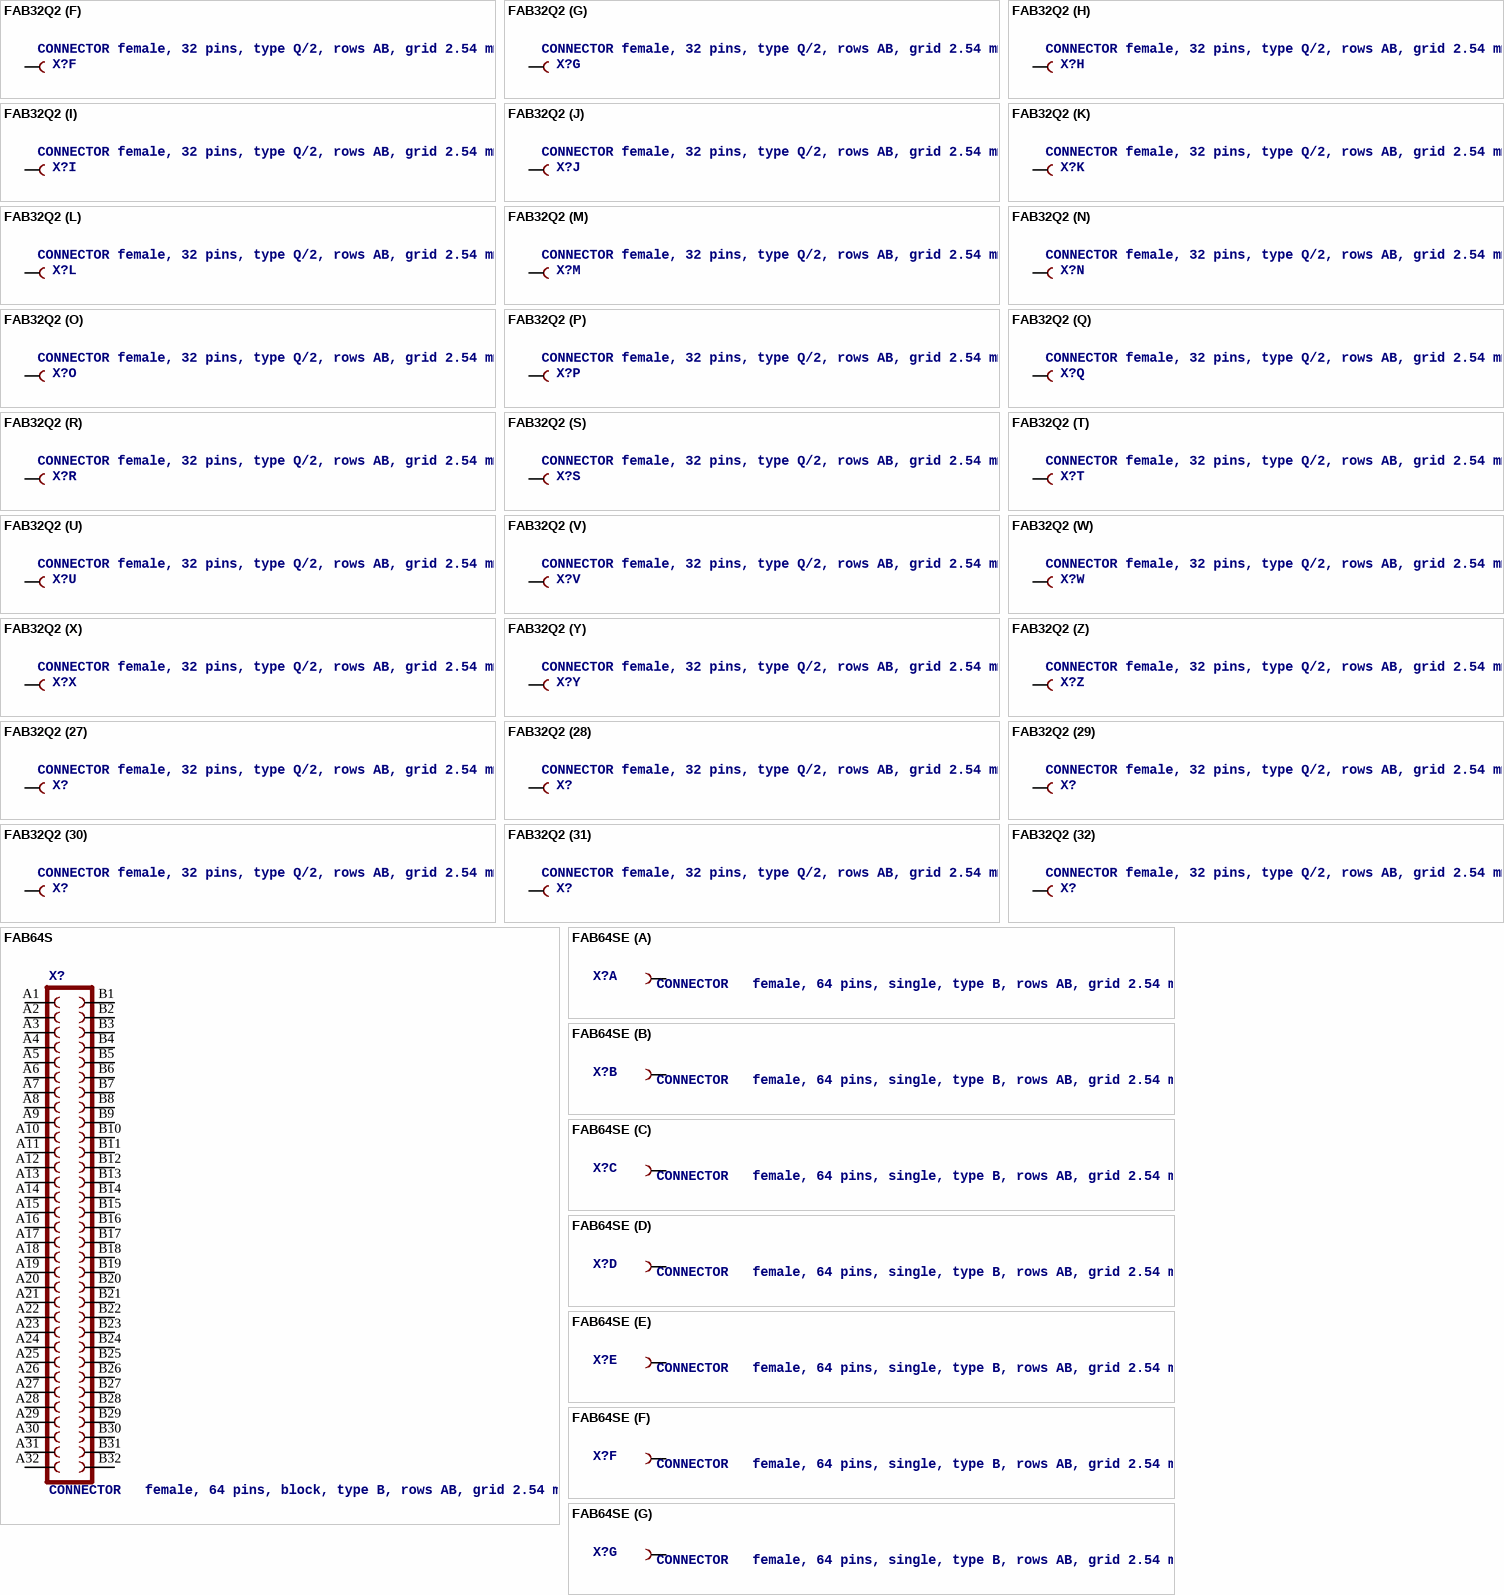
[diagram p22: symbols FAB32Q2 to FAB64SE]

## FAB32Q2
designator X?, comment CONNECTOR female, 32 pins, type Q/2, rows AB, grid 2.54 mm
footprint FAB32Q2
part A pins: A1 B
part B pins: A2 B
part C pins: A3 B
part D pins: A4 B
part E pins: A5 B
part F pins: A6 B
part G pins: A7 B
part H pins: A8 B
part I pins: A9 B
part J pins: A10 B
part K pins: A11 B
part L pins: A12 B
part M pins: A13 B
part N pins: A14 B
part O pins: A15 B
part P pins: A16 B
part Q pins: B1 B
part R pins: B2 B
part S pins: B3 B
part T pins: B4 B
part U pins: B5 B
part V pins: B6 B
part W pins: B7 B
part X pins: B8 B
part Y pins: B9 B
part Z pins: B10 B
part 27 pins: B11 B
part 28 pins: B12 B
part 29 pins: B13 B
part 30 pins: B14 B
part 31 pins: B15 B
part 32 pins: B16 B

## FAB64S
designator X?, comment CONNECTOR   female, 64 pins, block, type B, rows AB, grid 2.54 mm
footprint FAB64S
pins: A1, A2, A3, A4, A5, A6, A7, A8, A9, A10, A11, A12, A13, A14, A15, A16, A17, A18, A19, A20, A21, A22, A23, A24, A25, A26, A27, A28, A29, A30, A31, A32, B1, B2, B3, B4, B5, B6, B7, B8, B9, B10, B11, B12, B13, B14, B15, B16, B17, B18, B19, B20, B21, B22, B23, B24, B25, B26, B27, B28, B29, B30, B31, B32